# Altium integrated library Atmel AT40K.IntLib: 139 symbols (part 8 of 12)
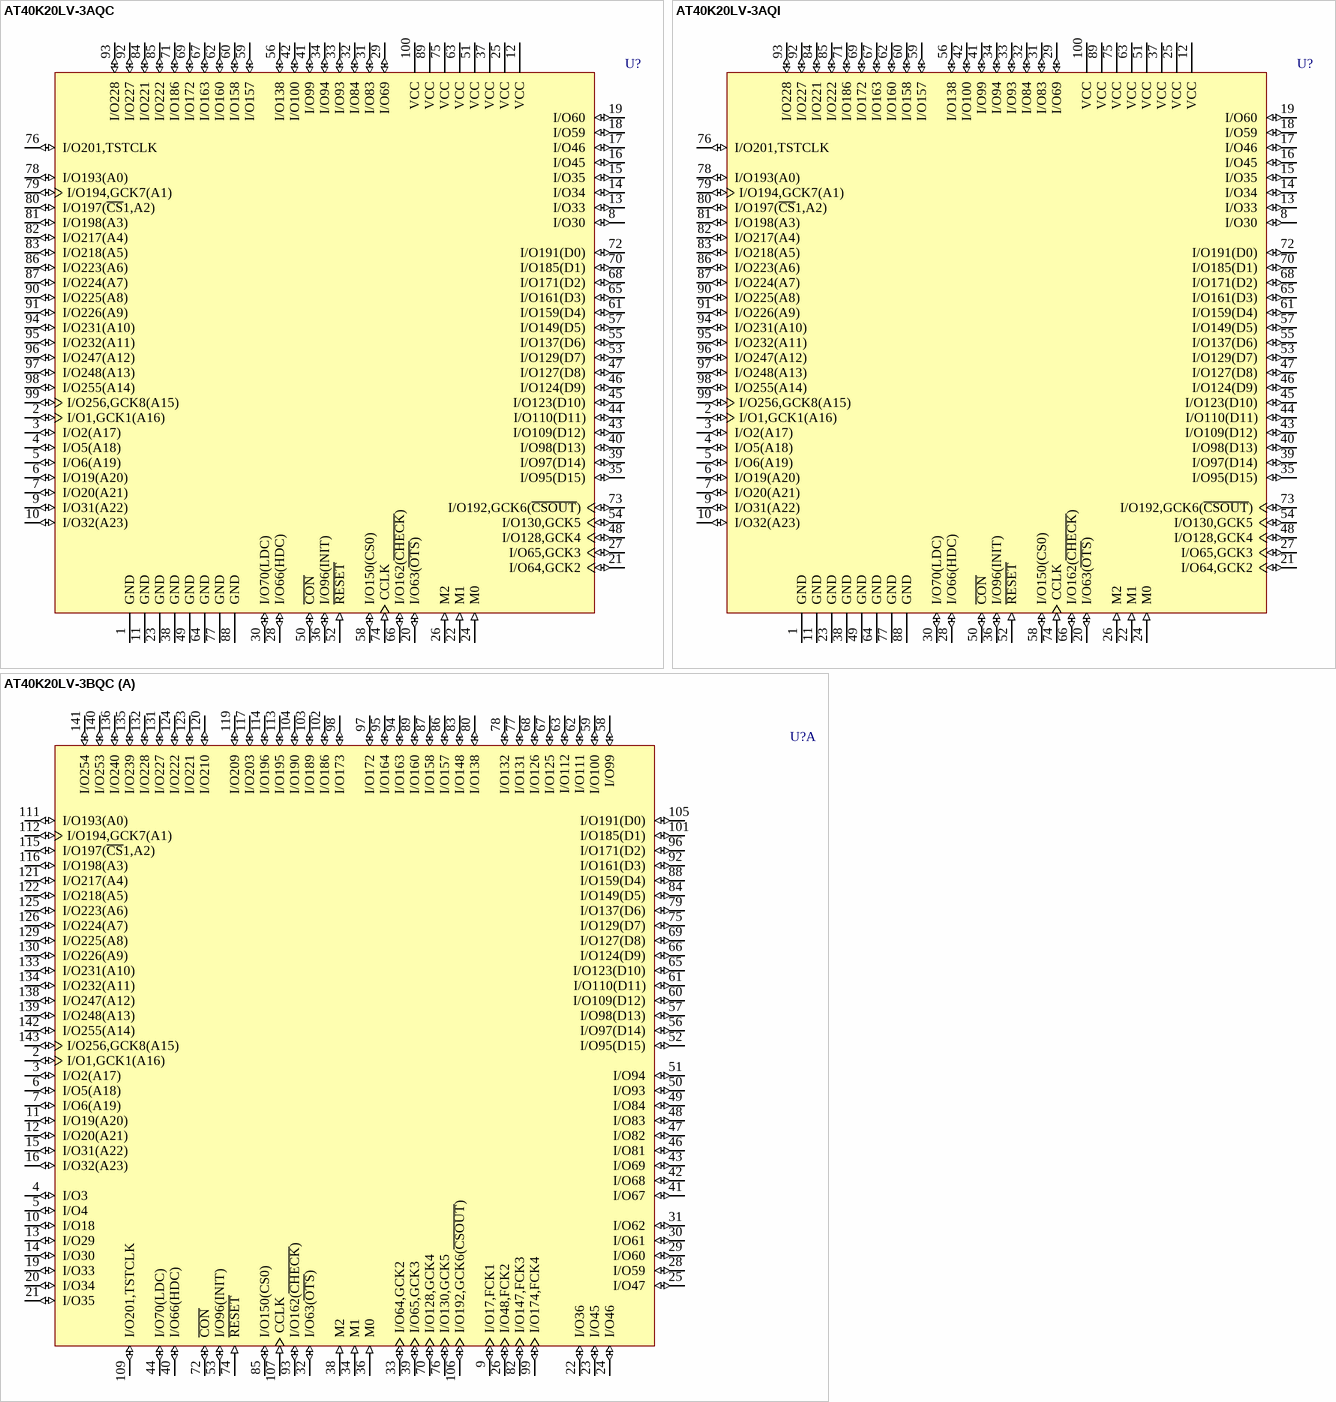
[diagram p114: symbols AT40K20LV-3AQC to AT40K20LV-3BQC]

## AT40K20LV-3AQI
designator U?
AT40K20LV 3.3V FPGA, 78 User I/Os, 100-Lead TQFP, Speed Grade 3, Industrial Grade; Published: 17-Dec-2003; LatestRevisionDate: 13-Apr-2006; LatestRevisionNote: IPC-7351 Footprint Added.; DatasheetVersion: Rev. 0896C-04/02; PackageVersion: rev.A, Nov-2001; PackageReference: 100T1; Publisher: Altium Limited; PackageDescription: 100-Pin Thin Quad Flat Pack 0.5 mm Pitch; Code_JEDEC: MS-026-AED; ComponentLink1Description: Manufacturer Link; ComponentLink1URL: http://www.atmel.com/products/FPGA/; ComponentLink2Description: Datasheet; ComponentLink2URL: http://www.atmel.com/dyn/resources/prod_documents/DOC0896.PDF
footprint 100T1_N (Thin QFP, 100-Leads, Body 14x14mm, Pitch 0.5mm, IPC Medium Density)
footprint 100T1_L (Thin QFP, 100-Leads, Body 14x14mm, Pitch 0.5mm, IPC High Density)
footprint 100T1_M (Thin QFP, 100-Leads, Body 14x14mm, Pitch 0.5mm, IPC Low Density)
3D model AT40K20LV-100T1 (100-Pin Thin Quad Flat Pack 0.5 mm Pitch)
pins: 1 GND (power), 2 I/O1,GCK1(A16) (io), 3 I/O2(A17) (io), 4 I/O5(A18) (io), 5 I/O6(A19) (io), 6 I/O19(A20) (io), 7 I/O20(A21) (io), 8 I/O30 (io), 9 I/O31(A22) (io), 10 I/O32(A23) (io), 11 GND (power), 12 VCC (power), 13 I/O33 (io), 14 I/O34 (io), 15 I/O35 (io), 16 I/O45 (io), 17 I/O46 (io), 18 I/O59 (io), 19 I/O60 (io), 20 I/O63(~{OTS}) (io), 21 I/O64,GCK2 (io), 22 M1 (in), 23 GND (power), 24 M0 (in), 25 VCC (power), 26 M2 (in), 27 I/O65,GCK3 (io), 28 I/O66(HDC) (io), 29 I/O69 (io), 30 I/O70(LDC) (io), 31 I/O83 (io), 32 I/O84 (io), 33 I/O93 (io), 34 I/O94 (io), 35 I/O95(D15) (io), 36 I/O96(INIT) (io), 37 VCC (power), 38 GND (power), 39 I/O97(D14) (io), 40 I/O98(D13) (io), 41 I/O99 (io), 42 I/O100 (io), 43 I/O109(D12) (io), 44 I/O110(D11) (io), 45 I/O123(D10) (io), 46 I/O124(D9) (io), 47 I/O127(D8) (io), 48 I/O128,GCK4 (io), 49 GND (power), 50 ~{CON} (io), 51 VCC (power), 52 ~{RESET} (in), 53 I/O129(D7) (io), 54 I/O130,GCK5 (io), 55 I/O137(D6) (io), 56 I/O138 (io), 57 I/O149(D5) (io), 58 I/O150(CS0) (io), 59 I/O157 (io), 60 I/O158 (io), 61 I/O159(D4) (io), 62 I/O160 (io), 63 VCC (power), 64 GND (power), 65 I/O161(D3) (io), 66 I/O162(~{CHECK}) (io), 67 I/O163 (io), 68 I/O171(D2) (io), 69 I/O172 (io), 70 I/O185(D1) (io), 71 I/O186 (io), 72 I/O191(D0) (io), 73 I/O192,GCK6(~{CSOUT}) (io), 74 CCLK (in), 75 VCC (power), 76 I/O201,TSTCLK (io), 77 GND (power), 78 I/O193(A0) (io), 79 I/O194,GCK7(A1) (io), 80 I/O197(~{CS}1,A2) (io), 81 I/O198(A3) (io), 82 I/O217(A4) (io), 83 I/O218(A5) (io), 84 I/O221 (io), 85 I/O222 (io), 86 I/O223(A6) (io), 87 I/O224(A7) (io), 88 GND (power), 89 VCC (power), 90 I/O225(A8) (io), 91 I/O226(A9) (io), 92 I/O227 (io), 93 I/O228 (io), 94 I/O231(A10) (io), 95 I/O232(A11) (io), 96 I/O247(A12) (io), 97 I/O248(A13) (io), 98 I/O255(A14) (io), 99 I/O256,GCK8(A15) (io), 100 VCC (power)

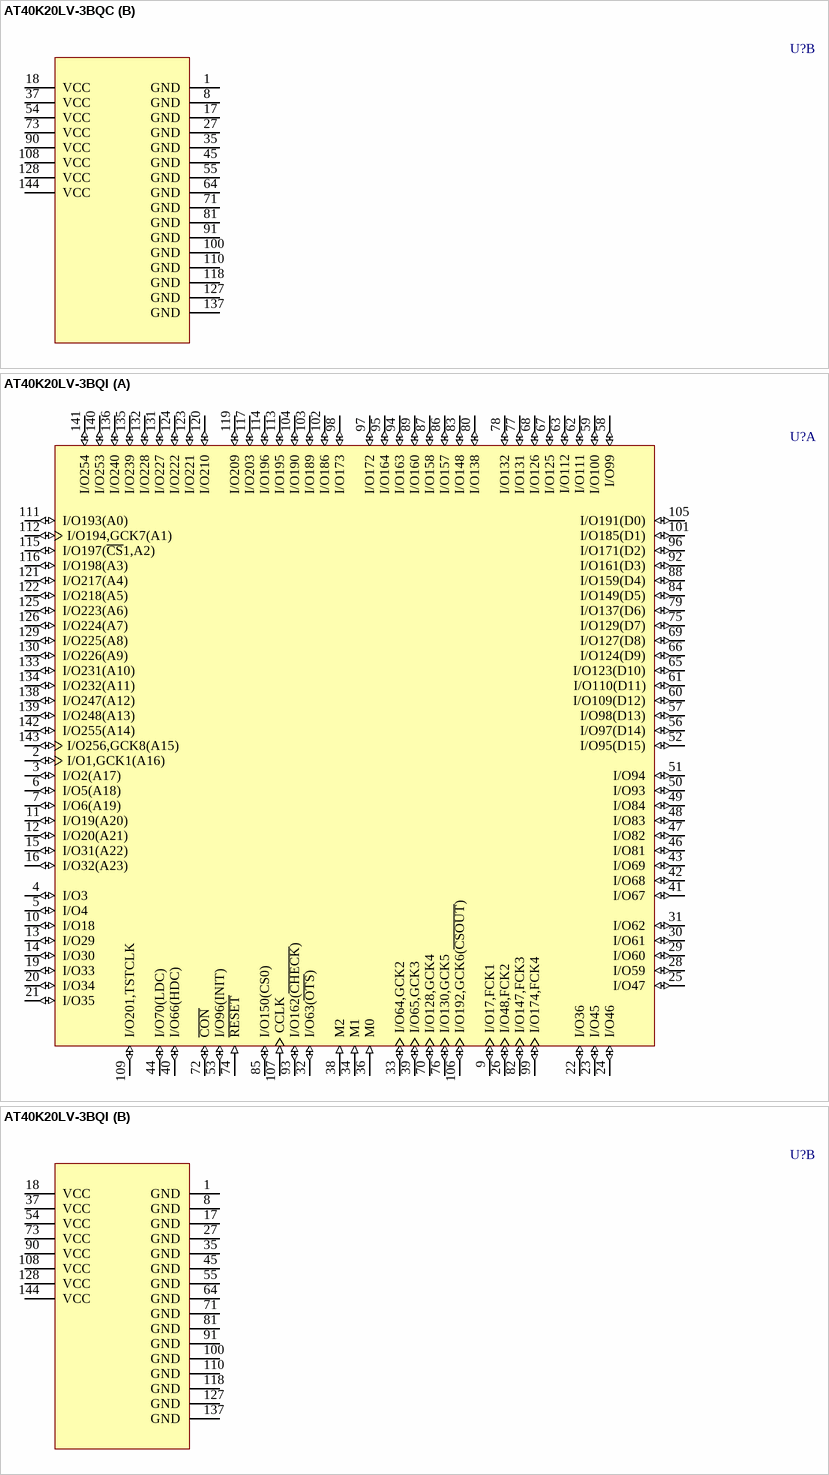
[diagram p60: symbols AT40K20LV-3BQC to AT40K20LV-3BQI]

## AT40K20LV-3BQC
designator U?
AT40K20LV 3.3V FPGA, 114 User I/Os, 144-Lead LQFP, Speed Grade 3, Commercial Grade; Published: 17-Dec-2003; LatestRevisionDate: 13-Apr-2006; LatestRevisionNote: IPC-7351 Footprint Added.; DatasheetVersion: Rev. 0896C-04/02; PackageVersion: rev.A, Nov-2001; PackageReference: 144L1; Publisher: Altium Limited; PackageDescription: 144-Pin Thin Quad Flat Pack 0.5 mm Pitch; Code_JEDEC: MS-026-BFB; ComponentLink1Description: Manufacturer Link; ComponentLink1URL: http://www.atmel.com/products/FPGA/; ComponentLink2Description: Datasheet; ComponentLink2URL: http://www.atmel.com/dyn/resources/prod_documents/DOC0896.PDF
footprint 144L1_N (Thin QFP, 144-Leads, Body 20x20mm, Pitch 0.5mm, IPC Medium Density)
footprint 144L1_L (Thin QFP, 144-Leads, Body 20x20mm, Pitch 0.5mm, IPC High Density)
footprint 144L1_M (Thin QFP, 144-Leads, Body 20x20mm, Pitch 0.5mm, IPC Low Density)
3D model AT40K20LV-144L1 (144-Pin Thin Quad Flat Pack 0.5 mm Pitch)
part A pins: 2 I/O1,GCK1(A16) (io), 3 I/O2(A17) (io), 4 I/O3 (io), 5 I/O4 (io), 6 I/O5(A18) (io), 7 I/O6(A19) (io), 9 I/O17,FCK1 (io), 10 I/O18 (io), 11 I/O19(A20) (io), 12 I/O20(A21) (io), 13 I/O29 (io), 14 I/O30 (io), 15 I/O31(A22) (io), 16 I/O32(A23) (io), 19 I/O33 (io), 20 I/O34 (io), 21 I/O35 (io), 22 I/O36 (io), 23 I/O45 (io), 24 I/O46 (io), 25 I/O47 (io), 26 I/O48,FCK2 (io), 28 I/O59 (io), 29 I/O60 (io), 30 I/O61 (io), 31 I/O62 (io), 32 I/O63(~{OTS}) (io), 33 I/O64,GCK2 (io), 34 M1 (in), 36 M0 (in), 38 M2 (in), 39 I/O65,GCK3 (io), 40 I/O66(HDC) (io), 41 I/O67 (io), 42 I/O68 (io), 43 I/O69 (io), 44 I/O70(LDC) (io), 46 I/O81 (io), 47 I/O82 (io), 48 I/O83 (io), 49 I/O84 (io), 50 I/O93 (io), 51 I/O94 (io), 52 I/O95(D15) (io), 53 I/O96(INIT) (io), 56 I/O97(D14) (io), 57 I/O98(D13) (io), 58 I/O99 (io), 59 I/O100 (io), 60 I/O109(D12) (io), 61 I/O110(D11) (io), 62 I/O111 (io), 63 I/O112 (io), 65 I/O123(D10) (io), 66 I/O124(D9) (io), 67 I/O125 (io), 68 I/O126 (io), 69 I/O127(D8) (io), 70 I/O128,GCK4 (io), 72 ~{CON} (io), 74 ~{RESET} (in), 75 I/O129(D7) (io), 76 I/O130,GCK5 (io), 77 I/O131 (io), 78 I/O132 (io), 79 I/O137(D6) (io), 80 I/O138 (io), 82 I/O147,FCK3 (io), 83 I/O148 (io), 84 I/O149(D5) (io), 85 I/O150(CS0) (io), 86 I/O157 (io), 87 I/O158 (io), 88 I/O159(D4) (io), 89 I/O160 (io), 92 I/O161(D3) (io), 93 I/O162(~{CHECK}) (io), 94 I/O163 (io), 95 I/O164 (io), 96 I/O171(D2) (io), 97 I/O172 (io), 98 I/O173 (io), 99 I/O174,FCK4 (io), 101 I/O185(D1) (io), 102 I/O186 (io), 103 I/O189 (io), 104 I/O190 (io), 105 I/O191(D0) (io), 106 I/O192,GCK6(~{CSOUT}) (io), 107 CCLK (in), 109 I/O201,TSTCLK (io), 111 I/O193(A0) (io), 112 I/O194,GCK7(A1) (io), 113 I/O195 (io), 114 I/O196 (io), 115 I/O197(~{CS}1,A2) (io), 116 I/O198(A3) (io), 117 I/O203 (io), 119 I/O209 (io), 120 I/O210 (io), 121 I/O217(A4) (io), 122 I/O218(A5) (io), 123 I/O221 (io), 124 I/O222 (io), 125 I/O223(A6) (io), 126 I/O224(A7) (io), 129 I/O225(A8) (io), 130 I/O226(A9) (io), 131 I/O227 (io), 132 I/O228 (io), 133 I/O231(A10) (io), 134 I/O232(A11) (io), 135 I/O239 (io), 136 I/O240 (io), 138 I/O247(A12) (io), 139 I/O248(A13) (io), 140 I/O253 (io), 141 I/O254 (io), 142 I/O255(A14) (io), 143 I/O256,GCK8(A15) (io)
part B pins: 1 GND (power), 8 GND (power), 17 GND (power), 18 VCC (power), 27 GND (power), 35 GND (power), 37 VCC (power), 45 GND (power), 54 VCC (power), 55 GND (power), 64 GND (power), 71 GND (power), 73 VCC (power), 81 GND (power), 90 VCC (power), 91 GND (power), 100 GND (power), 108 VCC (power), 110 GND (power), 118 GND (power), 127 GND (power), 128 VCC (power), 137 GND (power), 144 VCC (power)

## AT40K20LV-3BQI
designator U?
AT40K20LV 3.3V FPGA, 114 User I/Os, 144-Lead LQFP, Speed Grade 3, Industrial Grade; Published: 17-Dec-2003; LatestRevisionDate: 13-Apr-2006; LatestRevisionNote: IPC-7351 Footprint Added.; DatasheetVersion: Rev. 0896C-04/02; PackageVersion: rev.A, Nov-2001; PackageReference: 144L1; Publisher: Altium Limited; PackageDescription: 144-Pin Thin Quad Flat Pack 0.5 mm Pitch; Code_JEDEC: MS-026-BFB; ComponentLink1Description: Manufacturer Link; ComponentLink1URL: http://www.atmel.com/products/FPGA/; ComponentLink2Description: Datasheet; ComponentLink2URL: http://www.atmel.com/dyn/resources/prod_documents/DOC0896.PDF
footprint 144L1_N (Thin QFP, 144-Leads, Body 20x20mm, Pitch 0.5mm, IPC Medium Density)
footprint 144L1_L (Thin QFP, 144-Leads, Body 20x20mm, Pitch 0.5mm, IPC High Density)
footprint 144L1_M (Thin QFP, 144-Leads, Body 20x20mm, Pitch 0.5mm, IPC Low Density)
3D model AT40K20LV-144L1 (144-Pin Thin Quad Flat Pack 0.5 mm Pitch)
part A pins: 2 I/O1,GCK1(A16) (io), 3 I/O2(A17) (io), 4 I/O3 (io), 5 I/O4 (io), 6 I/O5(A18) (io), 7 I/O6(A19) (io), 9 I/O17,FCK1 (io), 10 I/O18 (io), 11 I/O19(A20) (io), 12 I/O20(A21) (io), 13 I/O29 (io), 14 I/O30 (io), 15 I/O31(A22) (io), 16 I/O32(A23) (io), 19 I/O33 (io), 20 I/O34 (io), 21 I/O35 (io), 22 I/O36 (io), 23 I/O45 (io), 24 I/O46 (io), 25 I/O47 (io), 26 I/O48,FCK2 (io), 28 I/O59 (io), 29 I/O60 (io), 30 I/O61 (io), 31 I/O62 (io), 32 I/O63(~{OTS}) (io), 33 I/O64,GCK2 (io), 34 M1 (in), 36 M0 (in), 38 M2 (in), 39 I/O65,GCK3 (io), 40 I/O66(HDC) (io), 41 I/O67 (io), 42 I/O68 (io), 43 I/O69 (io), 44 I/O70(LDC) (io), 46 I/O81 (io), 47 I/O82 (io), 48 I/O83 (io), 49 I/O84 (io), 50 I/O93 (io), 51 I/O94 (io), 52 I/O95(D15) (io), 53 I/O96(INIT) (io), 56 I/O97(D14) (io), 57 I/O98(D13) (io), 58 I/O99 (io), 59 I/O100 (io), 60 I/O109(D12) (io), 61 I/O110(D11) (io), 62 I/O111 (io), 63 I/O112 (io), 65 I/O123(D10) (io), 66 I/O124(D9) (io), 67 I/O125 (io), 68 I/O126 (io), 69 I/O127(D8) (io), 70 I/O128,GCK4 (io), 72 ~{CON} (io), 74 ~{RESET} (in), 75 I/O129(D7) (io), 76 I/O130,GCK5 (io), 77 I/O131 (io), 78 I/O132 (io), 79 I/O137(D6) (io), 80 I/O138 (io), 82 I/O147,FCK3 (io), 83 I/O148 (io), 84 I/O149(D5) (io), 85 I/O150(CS0) (io), 86 I/O157 (io), 87 I/O158 (io), 88 I/O159(D4) (io), 89 I/O160 (io), 92 I/O161(D3) (io), 93 I/O162(~{CHECK}) (io), 94 I/O163 (io), 95 I/O164 (io), 96 I/O171(D2) (io), 97 I/O172 (io), 98 I/O173 (io), 99 I/O174,FCK4 (io), 101 I/O185(D1) (io), 102 I/O186 (io), 103 I/O189 (io), 104 I/O190 (io), 105 I/O191(D0) (io), 106 I/O192,GCK6(~{CSOUT}) (io), 107 CCLK (in), 109 I/O201,TSTCLK (io), 111 I/O193(A0) (io), 112 I/O194,GCK7(A1) (io), 113 I/O195 (io), 114 I/O196 (io), 115 I/O197(~{CS}1,A2) (io), 116 I/O198(A3) (io), 117 I/O203 (io), 119 I/O209 (io), 120 I/O210 (io), 121 I/O217(A4) (io), 122 I/O218(A5) (io), 123 I/O221 (io), 124 I/O222 (io), 125 I/O223(A6) (io), 126 I/O224(A7) (io), 129 I/O225(A8) (io), 130 I/O226(A9) (io), 131 I/O227 (io), 132 I/O228 (io), 133 I/O231(A10) (io), 134 I/O232(A11) (io), 135 I/O239 (io), 136 I/O240 (io), 138 I/O247(A12) (io), 139 I/O248(A13) (io), 140 I/O253 (io), 141 I/O254 (io), 142 I/O255(A14) (io), 143 I/O256,GCK8(A15) (io)
part B pins: 1 GND (power), 8 GND (power), 17 GND (power), 18 VCC (power), 27 GND (power), 35 GND (power), 37 VCC (power), 45 GND (power), 54 VCC (power), 55 GND (power), 64 GND (power), 71 GND (power), 73 VCC (power), 81 GND (power), 90 VCC (power), 91 GND (power), 100 GND (power), 108 VCC (power), 110 GND (power), 118 GND (power), 127 GND (power), 128 VCC (power), 137 GND (power), 144 VCC (power)

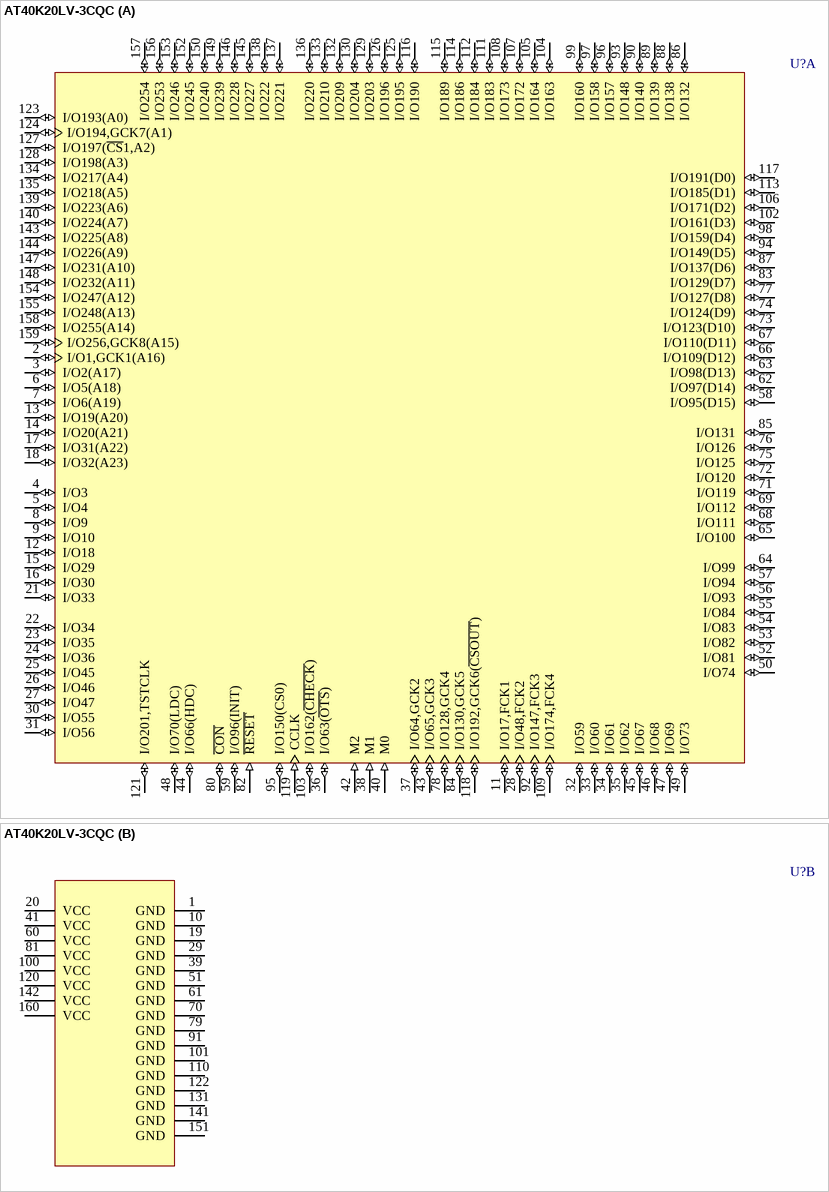
[diagram p61: symbol AT40K20LV-3CQC]

## AT40K20LV-3CQC
designator U?
AT40K20LV 3.3V FPGA, 130 User I/Os, 160-Lead PQFP, Speed Grade 3, Commercial Grade; Published: 17-Dec-2003; LatestRevisionDate: 13-Apr-2006; LatestRevisionNote: IPC-7351 Footprint Added.; DatasheetVersion: Rev. 0896C-04/02; PackageVersion: rev.A, Mar-2002; PackageReference: 160Q1; Publisher: Altium Limited; PackageDescription: 160-Pin Quad Flat Pack 0.65 mm Pitch; Code_JEDEC: MS-022-DD-1; Code_IPC: QFP65P3120X3120-160; ComponentLink1Description: Manufacturer Link; ComponentLink1URL: http://www.atmel.com/products/FPGA/; ComponentLink2Description: Datasheet; ComponentLink2URL: http://www.atmel.com/dyn/resources/prod_documents/DOC0896.PDF
footprint 160Q1_N (QFP, 160-Leads, Body 28 x 28mm, Pitch 0.65mm, IPC Medium Density)
footprint 160Q1_L (QFP, 160-Leads, Body 28 x 28mm, Pitch 0.65mm, IPC High Density)
footprint 160Q1_M (QFP, 160-Leads, Body 28 x 28mm, Pitch 0.65mm, IPC Low Density)
3D model AT40K20LV-160Q1 (160-Pin Quad Flat Pack 0.65 mm Pitch)
part A pins: 2 I/O1,GCK1(A16) (io), 3 I/O2(A17) (io), 4 I/O3 (io), 5 I/O4 (io), 6 I/O5(A18) (io), 7 I/O6(A19) (io), 8 I/O9 (io), 9 I/O10 (io), 11 I/O17,FCK1 (io), 12 I/O18 (io), 13 I/O19(A20) (io), 14 I/O20(A21) (io), 15 I/O29 (io), 16 I/O30 (io), 17 I/O31(A22) (io), 18 I/O32(A23) (io), 21 I/O33 (io), 22 I/O34 (io), 23 I/O35 (io), 24 I/O36 (io), 25 I/O45 (io), 26 I/O46 (io), 27 I/O47 (io), 28 I/O48,FCK2 (io), 30 I/O55 (io), 31 I/O56 (io), 32 I/O59 (io), 33 I/O60 (io), 34 I/O61 (io), 35 I/O62 (io), 36 I/O63(~{OTS}) (io), 37 I/O64,GCK2 (io), 38 M1 (in), 40 M0 (in), 42 M2 (in), 43 I/O65,GCK3 (io), 44 I/O66(HDC) (io), 45 I/O67 (io), 46 I/O68 (io), 47 I/O69 (io), 48 I/O70(LDC) (io), 49 I/O73 (io), 50 I/O74 (io), 52 I/O81 (io), 53 I/O82 (io), 54 I/O83 (io), 55 I/O84 (io), 56 I/O93 (io), 57 I/O94 (io), 58 I/O95(D15) (io), 59 I/O96(INIT) (io), 62 I/O97(D14) (io), 63 I/O98(D13) (io), 64 I/O99 (io), 65 I/O100 (io), 66 I/O109(D12) (io), 67 I/O110(D11) (io), 68 I/O111 (io), 69 I/O112 (io), 71 I/O119 (io), 72 I/O120 (io), 73 I/O123(D10) (io), 74 I/O124(D9) (io), 75 I/O125 (io), 76 I/O126 (io), 77 I/O127(D8) (io), 78 I/O128,GCK4 (io), 80 ~{CON} (io), 82 ~{RESET} (in), 83 I/O129(D7) (io), 84 I/O130,GCK5 (io), 85 I/O131 (io), 86 I/O132 (io), 87 I/O137(D6) (io), 88 I/O138 (io), 89 I/O139 (io), 90 I/O140 (io), 92 I/O147,FCK3 (io), 93 I/O148 (io), 94 I/O149(D5) (io), 95 I/O150(CS0) (io), 96 I/O157 (io), 97 I/O158 (io), 98 I/O159(D4) (io), 99 I/O160 (io), 102 I/O161(D3) (io), 103 I/O162(~{CHECK}) (io), 104 I/O163 (io), 105 I/O164 (io), 106 I/O171(D2) (io), 107 I/O172 (io), 108 I/O173 (io), 109 I/O174,FCK4 (io), 111 I/O183 (io), 112 I/O184 (io), 113 I/O185(D1) (io), 114 I/O186 (io), 115 I/O189 (io), 116 I/O190 (io), 117 I/O191(D0) (io), 118 I/O192,GCK6(~{CSOUT}) (io), 119 CCLK (in), 121 I/O201,TSTCLK (io), 123 I/O193(A0) (io), 124 I/O194,GCK7(A1) (io), 125 I/O195 (io), 126 I/O196 (io), 127 I/O197(~{CS}1,A2) (io), 128 I/O198(A3) (io), 129 I/O203 (io), 130 I/O204 (io), 132 I/O209 (io), 133 I/O210 (io), 134 I/O217(A4) (io), 135 I/O218(A5) (io), 136 I/O220 (io), 137 I/O221 (io), 138 I/O222 (io), 139 I/O223(A6) (io), 140 I/O224(A7) (io), 143 I/O225(A8) (io), 144 I/O226(A9) (io), 145 I/O227 (io), 146 I/O228 (io), 147 I/O231(A10) (io), 148 I/O232(A11) (io), 149 I/O239 (io), 150 I/O240 (io), 152 I/O245 (io), 153 I/O246 (io), 154 I/O247(A12) (io), 155 I/O248(A13) (io), 156 I/O253 (io), 157 I/O254 (io), 158 I/O255(A14) (io), 159 I/O256,GCK8(A15) (io)
part B pins: 1 GND (power), 10 GND (power), 19 GND (power), 20 VCC (power), 29 GND (power), 39 GND (power), 41 VCC (power), 51 GND (power), 60 VCC (power), 61 GND (power), 70 GND (power), 79 GND (power), 81 VCC (power), 91 GND (power), 100 VCC (power), 101 GND (power), 110 GND (power), 120 VCC (power), 122 GND (power), 131 GND (power), 141 GND (power), 142 VCC (power), 151 GND (power), 160 VCC (power)

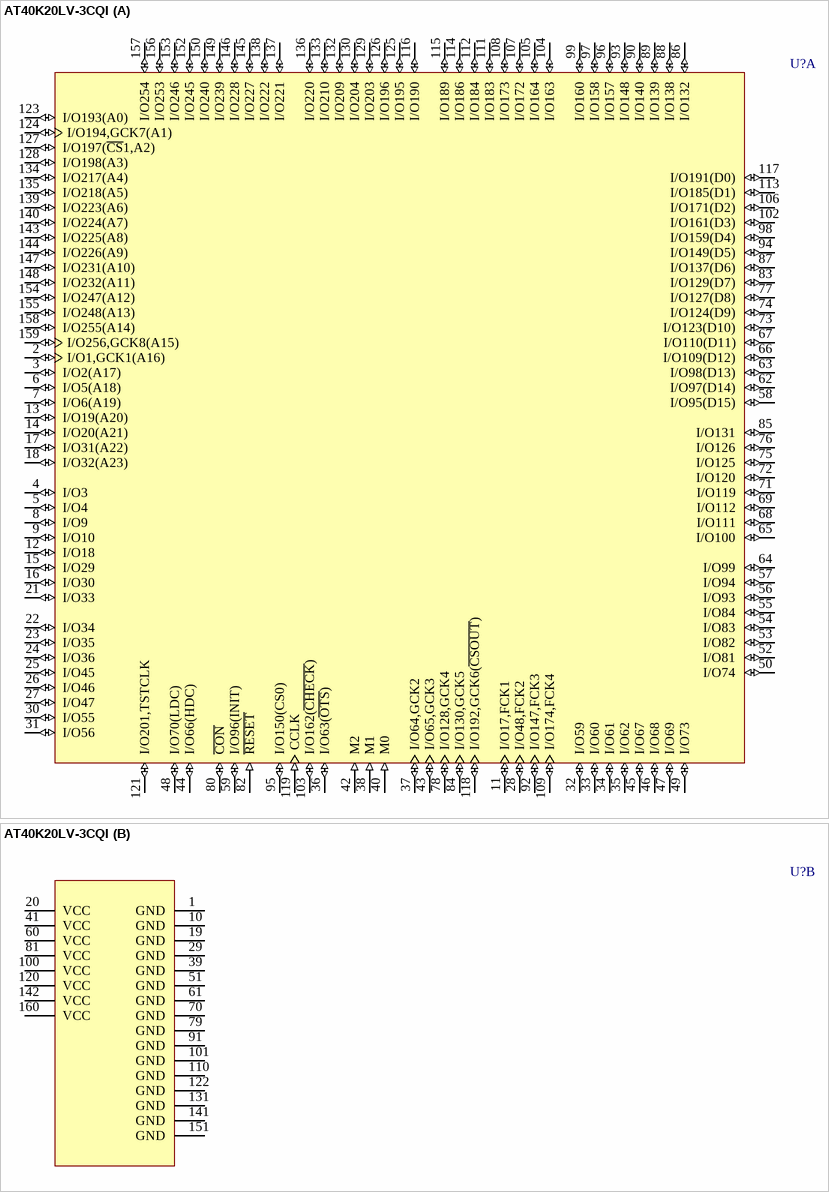
[diagram p62: symbol AT40K20LV-3CQI]

## AT40K20LV-3CQI
designator U?
AT40K20LV 3.3V FPGA, 130 User I/Os, 160-Lead PQFP, Speed Grade 3, Industrial Grade; Published: 17-Dec-2003; LatestRevisionDate: 13-Apr-2006; LatestRevisionNote: IPC-7351 Footprint Added.; DatasheetVersion: Rev. 0896C-04/02; PackageVersion: rev.A, Mar-2002; PackageReference: 160Q1; Publisher: Altium Limited; PackageDescription: 160-Pin Quad Flat Pack 0.65 mm Pitch; Code_JEDEC: MS-022-DD-1; Code_IPC: QFP65P3120X3120-160; ComponentLink1Description: Manufacturer Link; ComponentLink1URL: http://www.atmel.com/products/FPGA/; ComponentLink2Description: Datasheet; ComponentLink2URL: http://www.atmel.com/dyn/resources/prod_documents/DOC0896.PDF
footprint 160Q1_N (QFP, 160-Leads, Body 28 x 28mm, Pitch 0.65mm, IPC Medium Density)
footprint 160Q1_L (QFP, 160-Leads, Body 28 x 28mm, Pitch 0.65mm, IPC High Density)
footprint 160Q1_M (QFP, 160-Leads, Body 28 x 28mm, Pitch 0.65mm, IPC Low Density)
3D model AT40K20LV-160Q1 (160-Pin Quad Flat Pack 0.65 mm Pitch)
part A pins: 2 I/O1,GCK1(A16) (io), 3 I/O2(A17) (io), 4 I/O3 (io), 5 I/O4 (io), 6 I/O5(A18) (io), 7 I/O6(A19) (io), 8 I/O9 (io), 9 I/O10 (io), 11 I/O17,FCK1 (io), 12 I/O18 (io), 13 I/O19(A20) (io), 14 I/O20(A21) (io), 15 I/O29 (io), 16 I/O30 (io), 17 I/O31(A22) (io), 18 I/O32(A23) (io), 21 I/O33 (io), 22 I/O34 (io), 23 I/O35 (io), 24 I/O36 (io), 25 I/O45 (io), 26 I/O46 (io), 27 I/O47 (io), 28 I/O48,FCK2 (io), 30 I/O55 (io), 31 I/O56 (io), 32 I/O59 (io), 33 I/O60 (io), 34 I/O61 (io), 35 I/O62 (io), 36 I/O63(~{OTS}) (io), 37 I/O64,GCK2 (io), 38 M1 (in), 40 M0 (in), 42 M2 (in), 43 I/O65,GCK3 (io), 44 I/O66(HDC) (io), 45 I/O67 (io), 46 I/O68 (io), 47 I/O69 (io), 48 I/O70(LDC) (io), 49 I/O73 (io), 50 I/O74 (io), 52 I/O81 (io), 53 I/O82 (io), 54 I/O83 (io), 55 I/O84 (io), 56 I/O93 (io), 57 I/O94 (io), 58 I/O95(D15) (io), 59 I/O96(INIT) (io), 62 I/O97(D14) (io), 63 I/O98(D13) (io), 64 I/O99 (io), 65 I/O100 (io), 66 I/O109(D12) (io), 67 I/O110(D11) (io), 68 I/O111 (io), 69 I/O112 (io), 71 I/O119 (io), 72 I/O120 (io), 73 I/O123(D10) (io), 74 I/O124(D9) (io), 75 I/O125 (io), 76 I/O126 (io), 77 I/O127(D8) (io), 78 I/O128,GCK4 (io), 80 ~{CON} (io), 82 ~{RESET} (in), 83 I/O129(D7) (io), 84 I/O130,GCK5 (io), 85 I/O131 (io), 86 I/O132 (io), 87 I/O137(D6) (io), 88 I/O138 (io), 89 I/O139 (io), 90 I/O140 (io), 92 I/O147,FCK3 (io), 93 I/O148 (io), 94 I/O149(D5) (io), 95 I/O150(CS0) (io), 96 I/O157 (io), 97 I/O158 (io), 98 I/O159(D4) (io), 99 I/O160 (io), 102 I/O161(D3) (io), 103 I/O162(~{CHECK}) (io), 104 I/O163 (io), 105 I/O164 (io), 106 I/O171(D2) (io), 107 I/O172 (io), 108 I/O173 (io), 109 I/O174,FCK4 (io), 111 I/O183 (io), 112 I/O184 (io), 113 I/O185(D1) (io), 114 I/O186 (io), 115 I/O189 (io), 116 I/O190 (io), 117 I/O191(D0) (io), 118 I/O192,GCK6(~{CSOUT}) (io), 119 CCLK (in), 121 I/O201,TSTCLK (io), 123 I/O193(A0) (io), 124 I/O194,GCK7(A1) (io), 125 I/O195 (io), 126 I/O196 (io), 127 I/O197(~{CS}1,A2) (io), 128 I/O198(A3) (io), 129 I/O203 (io), 130 I/O204 (io), 132 I/O209 (io), 133 I/O210 (io), 134 I/O217(A4) (io), 135 I/O218(A5) (io), 136 I/O220 (io), 137 I/O221 (io), 138 I/O222 (io), 139 I/O223(A6) (io), 140 I/O224(A7) (io), 143 I/O225(A8) (io), 144 I/O226(A9) (io), 145 I/O227 (io), 146 I/O228 (io), 147 I/O231(A10) (io), 148 I/O232(A11) (io), 149 I/O239 (io), 150 I/O240 (io), 152 I/O245 (io), 153 I/O246 (io), 154 I/O247(A12) (io), 155 I/O248(A13) (io), 156 I/O253 (io), 157 I/O254 (io), 158 I/O255(A14) (io), 159 I/O256,GCK8(A15) (io)
part B pins: 1 GND (power), 10 GND (power), 19 GND (power), 20 VCC (power), 29 GND (power), 39 GND (power), 41 VCC (power), 51 GND (power), 60 VCC (power), 61 GND (power), 70 GND (power), 79 GND (power), 81 VCC (power), 91 GND (power), 100 VCC (power), 101 GND (power), 110 GND (power), 120 VCC (power), 122 GND (power), 131 GND (power), 141 GND (power), 142 VCC (power), 151 GND (power), 160 VCC (power)

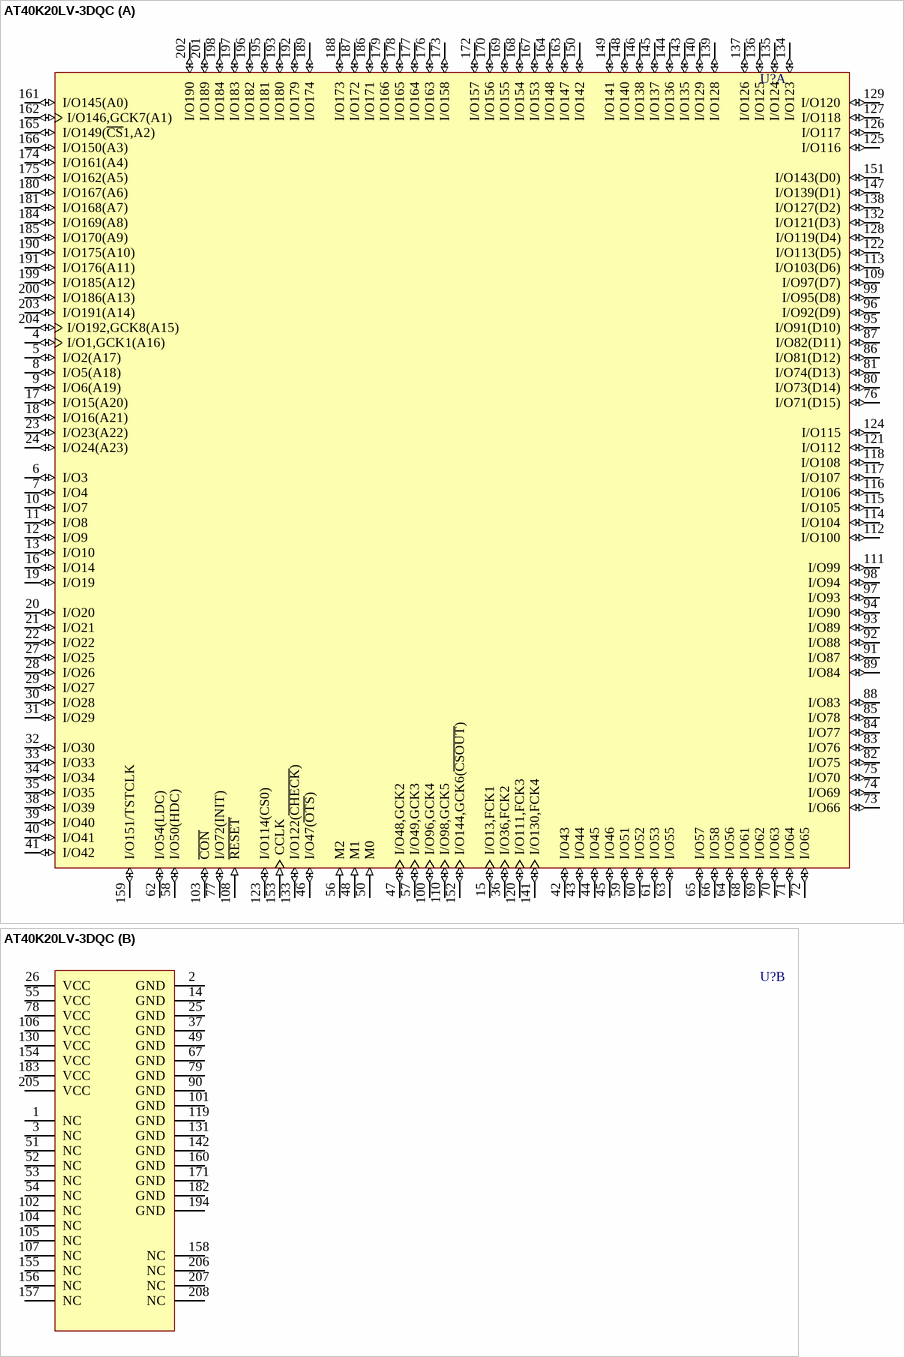
[diagram p63: symbol AT40K20LV-3DQC]

## AT40K20LV-3DQC
designator U?
AT40K20LV 3.3V FPGA, 161 User I/Os, 208-Lead PQFP, Speed Grade 3, Commercial Grade; Published: 17-Dec-2003; LatestRevisionDate: 13-Apr-2006; LatestRevisionNote: IPC-7351 Footprint Added.; DatasheetVersion: Rev. 0896C-04/02; PackageVersion: rev.A, Nov-2001; PackageReference: 208Q1; Publisher: Altium Limited; PackageDescription: 208-Pin Shrink Quad Flat Pack 0.5 mm Pitch; ComponentLink1Description: Manufacturer Link; ComponentLink1URL: http://www.atmel.com/products/FPGA/; ComponentLink2Description: Datasheet; ComponentLink2URL: http://www.atmel.com/dyn/resources/prod_documents/DOC0896.PDF
footprint 208Q1_N (Shrink QFP, 208-Leads, Body 28x28mm, Pitch 0.5mm, IPC Medium Density)
footprint 208Q1_L (Shrink QFP, 208-Leads, Body 28x28mm, Pitch 0.5mm, IPC High Density)
footprint 208Q1_M (Shrink QFP, 208-Leads, Body 28x28mm, Pitch 0.5mm, IPC Low Density)
3D model AT40K20LV-208Q1 (208-Pin Shrink Quad Flat Pack 0.5 mm Pitch)
part A pins: 4 I/O1,GCK1(A16) (io), 5 I/O2(A17) (io), 6 I/O3 (io), 7 I/O4 (io), 8 I/O5(A18) (io), 9 I/O6(A19) (io), 10 I/O7 (io), 11 I/O8 (io), 12 I/O9 (io), 13 I/O10 (io), 15 I/O13,FCK1 (io), 16 I/O14 (io), 17 I/O15(A20) (io), 18 I/O16(A21) (io), 19 I/O19 (io), 20 I/O20 (io), 21 I/O21 (io), 22 I/O22 (io), 23 I/O23(A22) (io), 24 I/O24(A23) (io), 27 I/O25 (io), 28 I/O26 (io), 29 I/O27 (io), 30 I/O28 (io), 31 I/O29 (io), 32 I/O30 (io), 33 I/O33 (io), 34 I/O34 (io), 35 I/O35 (io), 36 I/O36,FCK2 (io), 38 I/O39 (io), 39 I/O40 (io), 40 I/O41 (io), 41 I/O42 (io), 42 I/O43 (io), 43 I/O44 (io), 44 I/O45 (io), 45 I/O46 (io), 46 I/O47(~{OTS}) (io), 47 I/O48,GCK2 (io), 48 M1 (in), 50 M0 (in), 56 M2 (in), 57 I/O49,GCK3 (io), 58 I/O50(HDC) (io), 59 I/O51 (io), 60 I/O52 (io), 61 I/O53 (io), 62 I/O54(LDC) (io), 63 I/O55 (io), 64 I/O56 (io), 65 I/O57 (io), 66 I/O58 (io), 68 I/O61 (io), 69 I/O62 (io), 70 I/O63 (io), 71 I/O64 (io), 72 I/O65 (io), 73 I/O66 (io), 74 I/O69 (io), 75 I/O70 (io), 76 I/O71(D15) (io), 77 I/O72(INIT) (io), 80 I/O73(D14) (io), 81 I/O74(D13) (io), 82 I/O75 (io), 83 I/O76 (io), 84 I/O77 (io), 85 I/O78 (io), 86 I/O81(D12) (io), 87 I/O82(D11) (io), 88 I/O83 (io), 89 I/O84 (io), 91 I/O87 (io), 92 I/O88 (io), 93 I/O89 (io), 94 I/O90 (io), 95 I/O91(D10) (io), 96 I/O92(D9) (io), 97 I/O93 (io), 98 I/O94 (io), 99 I/O95(D8) (io), 100 I/O96,GCK4 (io), 103 ~{CON} (io), 108 ~{RESET} (in), 109 I/O97(D7) (io), 110 I/O98,GCK5 (io), 111 I/O99 (io), 112 I/O100 (io), 113 I/O103(D6) (io), 114 I/O104 (io), 115 I/O105 (io), 116 I/O106 (io), 117 I/O107 (io), 118 I/O108 (io), 120 I/O111,FCK3 (io), 121 I/O112 (io), 122 I/O113(D5) (io), 123 I/O114(CS0) (io), 124 I/O115 (io), 125 I/O116 (io), 126 I/O117 (io), 127 I/O118 (io), 128 I/O119(D4) (io), 129 I/O120 (io), 132 I/O121(D3) (io), 133 I/O122(~{CHECK}) (io), 134 I/O123 (io), 135 I/O124 (io), 136 I/O125 (io), 137 I/O126 (io), 138 I/O127(D2) (io), 139 I/O128 (io), 140 I/O129 (io), 141 I/O130,FCK4 (io), 143 I/O135 (io), 144 I/O136 (io), 145 I/O137 (io), 146 I/O138 (io), 147 I/O139(D1) (io), 148 I/O140 (io), 149 I/O141 (io), 150 I/O142 (io), 151 I/O143(D0) (io), 152 I/O144,GCK6(~{CSOUT}) (io), 153 CCLK (in), 159 I/O151/TSTCLK (io), 161 I/O145(A0) (io), 162 I/O146,GCK7(A1) (io), 163 I/O147 (io), 164 I/O148 (io), 165 I/O149(~{CS}1,A2) (io), 166 I/O150(A3) (io), 167 I/O153 (io), 168 I/O154 (io), 169 I/O155 (io), 170 I/O156 (io), 172 I/O157 (io), 173 I/O158 (io), 174 I/O161(A4) (io), 175 I/O162(A5) (io), 176 I/O163 (io), 177 I/O164 (io), 178 I/O165 (io), 179 I/O166 (io), 180 I/O167(A6) (io), 181 I/O168(A7) (io), 184 I/O169(A8) (io), 185 I/O170(A9) (io), 186 I/O171 (io), 187 I/O172 (io), 188 I/O173 (io), 189 I/O174 (io), 190 I/O175(A10) (io), 191 I/O176(A11) (io), 192 I/O179 (io), 193 I/O180 (io), 195 I/O181 (io), 196 I/O182 (io), 197 I/O183 (io), 198 I/O184 (io), 199 I/O185(A12) (io), 200 I/O186(A13) (io), 201 I/O189 (io), 202 I/O190 (io), 203 I/O191(A14) (io), 204 I/O192,GCK8(A15) (io)
part B pins: 1 NC, 2 GND (power), 3 NC, 14 GND (power), 25 GND (power), 26 VCC (power), 37 GND (power), 49 GND (power), 51 NC, 52 NC, 53 NC, 54 NC, 55 VCC (power), 67 GND (power), 78 VCC (power), 79 GND (power), 90 GND (power), 101 GND (power), 102 NC, 104 NC, 105 NC, 106 VCC (power), 107 NC, 119 GND (power), 130 VCC (power), 131 GND (power), 142 GND (power), 154 VCC (power), 155 NC, 156 NC, 157 NC, 158 NC, 160 GND (power), 171 GND (power), 182 GND (power), 183 VCC (power), 194 GND (power), 205 VCC (power), 206 NC, 207 NC, 208 NC

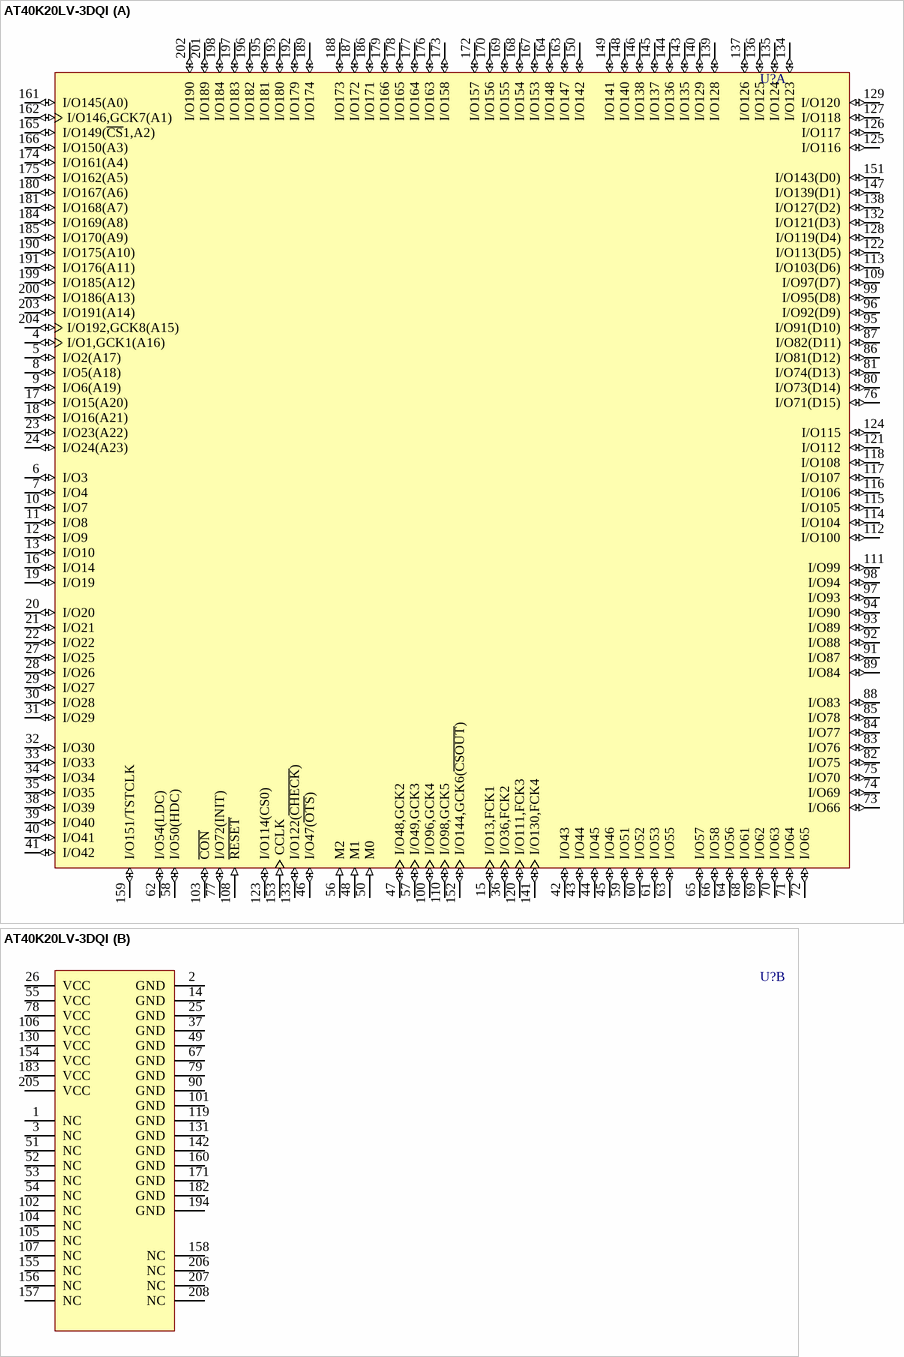
[diagram p64: symbol AT40K20LV-3DQI]

## AT40K20LV-3DQI
designator U?
AT40K20LV 3.3V FPGA, 161 User I/Os, 208-Lead PQFP, Speed Grade 3, Industrial Grade; Published: 17-Dec-2003; LatestRevisionDate: 13-Apr-2006; LatestRevisionNote: IPC-7351 Footprint Added.; DatasheetVersion: Rev. 0896C-04/02; PackageVersion: rev.A, Nov-2001; PackageReference: 208Q1; Publisher: Altium Limited; PackageDescription: 208-Pin Shrink Quad Flat Pack 0.5 mm Pitch; ComponentLink1Description: Manufacturer Link; ComponentLink1URL: http://www.atmel.com/products/FPGA/; ComponentLink2Description: Datasheet; ComponentLink2URL: http://www.atmel.com/dyn/resources/prod_documents/DOC0896.PDF
footprint 208Q1_N (Shrink QFP, 208-Leads, Body 28x28mm, Pitch 0.5mm, IPC Medium Density)
footprint 208Q1_L (Shrink QFP, 208-Leads, Body 28x28mm, Pitch 0.5mm, IPC High Density)
footprint 208Q1_M (Shrink QFP, 208-Leads, Body 28x28mm, Pitch 0.5mm, IPC Low Density)
3D model AT40K20LV-208Q1 (208-Pin Shrink Quad Flat Pack 0.5 mm Pitch)
part A pins: 4 I/O1,GCK1(A16) (io), 5 I/O2(A17) (io), 6 I/O3 (io), 7 I/O4 (io), 8 I/O5(A18) (io), 9 I/O6(A19) (io), 10 I/O7 (io), 11 I/O8 (io), 12 I/O9 (io), 13 I/O10 (io), 15 I/O13,FCK1 (io), 16 I/O14 (io), 17 I/O15(A20) (io), 18 I/O16(A21) (io), 19 I/O19 (io), 20 I/O20 (io), 21 I/O21 (io), 22 I/O22 (io), 23 I/O23(A22) (io), 24 I/O24(A23) (io), 27 I/O25 (io), 28 I/O26 (io), 29 I/O27 (io), 30 I/O28 (io), 31 I/O29 (io), 32 I/O30 (io), 33 I/O33 (io), 34 I/O34 (io), 35 I/O35 (io), 36 I/O36,FCK2 (io), 38 I/O39 (io), 39 I/O40 (io), 40 I/O41 (io), 41 I/O42 (io), 42 I/O43 (io), 43 I/O44 (io), 44 I/O45 (io), 45 I/O46 (io), 46 I/O47(~{OTS}) (io), 47 I/O48,GCK2 (io), 48 M1 (in), 50 M0 (in), 56 M2 (in), 57 I/O49,GCK3 (io), 58 I/O50(HDC) (io), 59 I/O51 (io), 60 I/O52 (io), 61 I/O53 (io), 62 I/O54(LDC) (io), 63 I/O55 (io), 64 I/O56 (io), 65 I/O57 (io), 66 I/O58 (io), 68 I/O61 (io), 69 I/O62 (io), 70 I/O63 (io), 71 I/O64 (io), 72 I/O65 (io), 73 I/O66 (io), 74 I/O69 (io), 75 I/O70 (io), 76 I/O71(D15) (io), 77 I/O72(INIT) (io), 80 I/O73(D14) (io), 81 I/O74(D13) (io), 82 I/O75 (io), 83 I/O76 (io), 84 I/O77 (io), 85 I/O78 (io), 86 I/O81(D12) (io), 87 I/O82(D11) (io), 88 I/O83 (io), 89 I/O84 (io), 91 I/O87 (io), 92 I/O88 (io), 93 I/O89 (io), 94 I/O90 (io), 95 I/O91(D10) (io), 96 I/O92(D9) (io), 97 I/O93 (io), 98 I/O94 (io), 99 I/O95(D8) (io), 100 I/O96,GCK4 (io), 103 ~{CON} (io), 108 ~{RESET} (in), 109 I/O97(D7) (io), 110 I/O98,GCK5 (io), 111 I/O99 (io), 112 I/O100 (io), 113 I/O103(D6) (io), 114 I/O104 (io), 115 I/O105 (io), 116 I/O106 (io), 117 I/O107 (io), 118 I/O108 (io), 120 I/O111,FCK3 (io), 121 I/O112 (io), 122 I/O113(D5) (io), 123 I/O114(CS0) (io), 124 I/O115 (io), 125 I/O116 (io), 126 I/O117 (io), 127 I/O118 (io), 128 I/O119(D4) (io), 129 I/O120 (io), 132 I/O121(D3) (io), 133 I/O122(~{CHECK}) (io), 134 I/O123 (io), 135 I/O124 (io), 136 I/O125 (io), 137 I/O126 (io), 138 I/O127(D2) (io), 139 I/O128 (io), 140 I/O129 (io), 141 I/O130,FCK4 (io), 143 I/O135 (io), 144 I/O136 (io), 145 I/O137 (io), 146 I/O138 (io), 147 I/O139(D1) (io), 148 I/O140 (io), 149 I/O141 (io), 150 I/O142 (io), 151 I/O143(D0) (io), 152 I/O144,GCK6(~{CSOUT}) (io), 153 CCLK (in), 159 I/O151/TSTCLK (io), 161 I/O145(A0) (io), 162 I/O146,GCK7(A1) (io), 163 I/O147 (io), 164 I/O148 (io), 165 I/O149(~{CS}1,A2) (io), 166 I/O150(A3) (io), 167 I/O153 (io), 168 I/O154 (io), 169 I/O155 (io), 170 I/O156 (io), 172 I/O157 (io), 173 I/O158 (io), 174 I/O161(A4) (io), 175 I/O162(A5) (io), 176 I/O163 (io), 177 I/O164 (io), 178 I/O165 (io), 179 I/O166 (io), 180 I/O167(A6) (io), 181 I/O168(A7) (io), 184 I/O169(A8) (io), 185 I/O170(A9) (io), 186 I/O171 (io), 187 I/O172 (io), 188 I/O173 (io), 189 I/O174 (io), 190 I/O175(A10) (io), 191 I/O176(A11) (io), 192 I/O179 (io), 193 I/O180 (io), 195 I/O181 (io), 196 I/O182 (io), 197 I/O183 (io), 198 I/O184 (io), 199 I/O185(A12) (io), 200 I/O186(A13) (io), 201 I/O189 (io), 202 I/O190 (io), 203 I/O191(A14) (io), 204 I/O192,GCK8(A15) (io)
part B pins: 1 NC, 2 GND (power), 3 NC, 14 GND (power), 25 GND (power), 26 VCC (power), 37 GND (power), 49 GND (power), 51 NC, 52 NC, 53 NC, 54 NC, 55 VCC (power), 67 GND (power), 78 VCC (power), 79 GND (power), 90 GND (power), 101 GND (power), 102 NC, 104 NC, 105 NC, 106 VCC (power), 107 NC, 119 GND (power), 130 VCC (power), 131 GND (power), 142 GND (power), 154 VCC (power), 155 NC, 156 NC, 157 NC, 158 NC, 160 GND (power), 171 GND (power), 182 GND (power), 183 VCC (power), 194 GND (power), 205 VCC (power), 206 NC, 207 NC, 208 NC

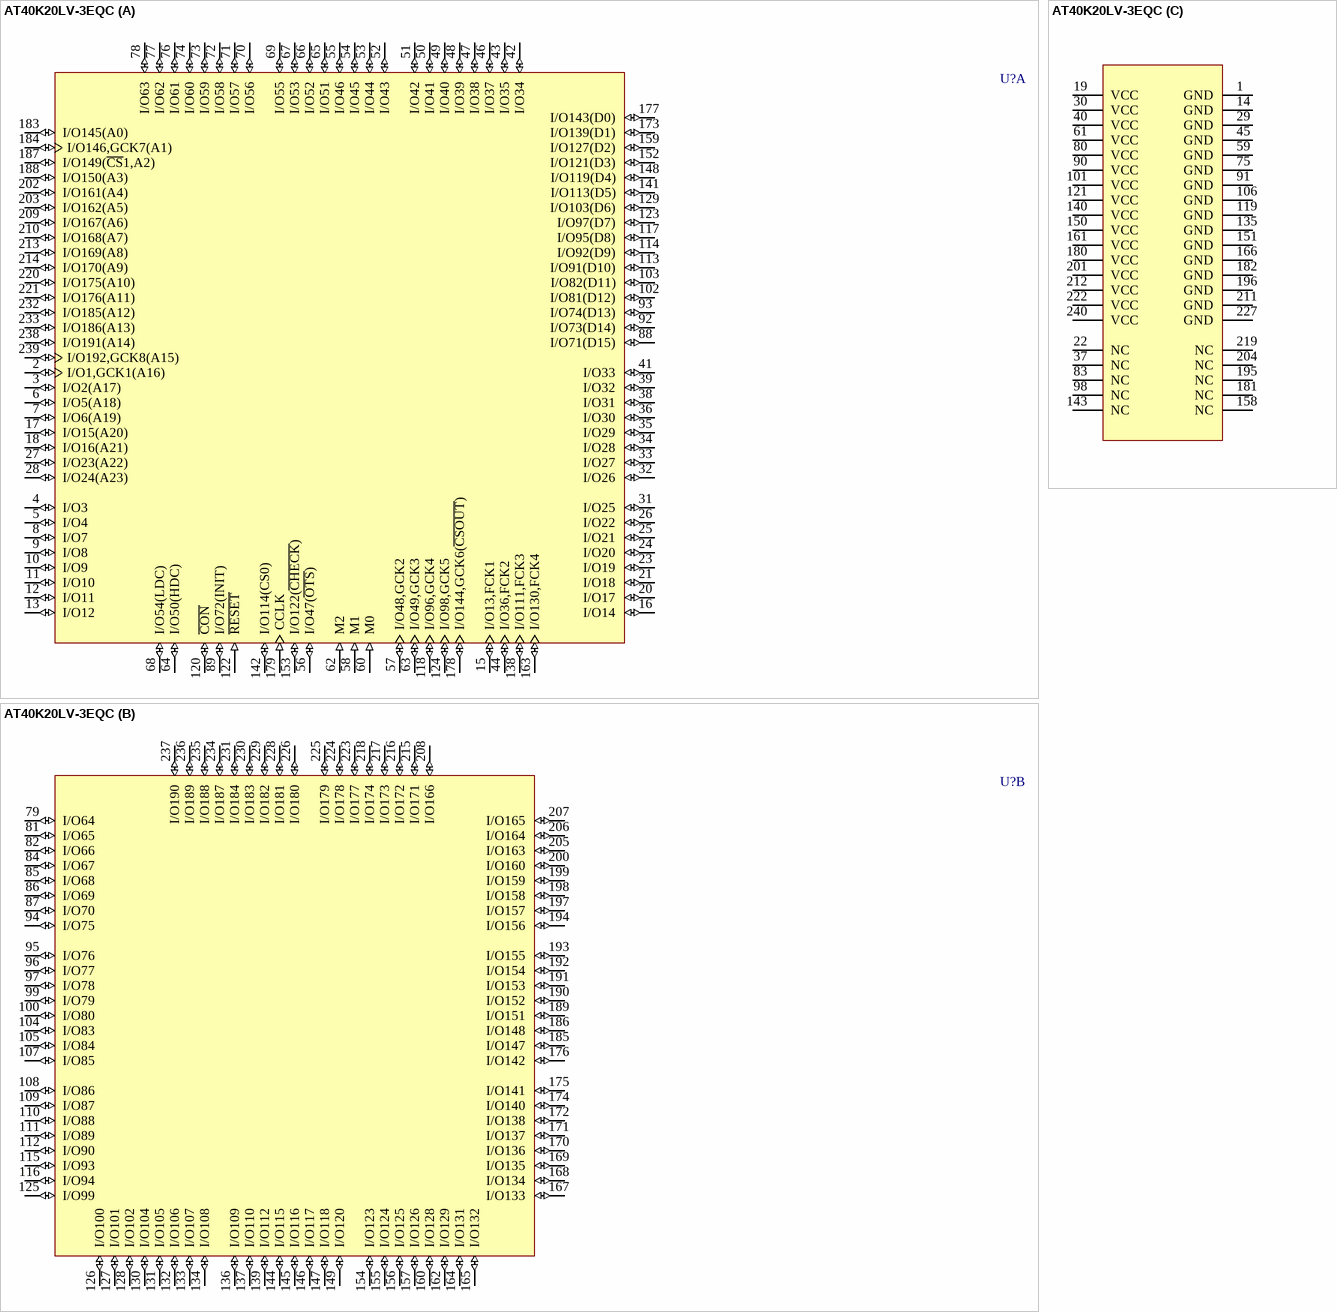
[diagram p65: symbol AT40K20LV-3EQC]

## AT40K20LV-3EQC
designator U?
AT40K20LV 3.3V FPGA, 193 User I/Os, 240-Lead PQFP, Speed Grade 3, Commercial Grade; Published: 15-Apr-2002; LatestRevisionDate: 13-Apr-2006; LatestRevisionNote: IPC-7351 Footprint Added.; DatasheetVersion: Rev. 0896C-04/02; PackageVersion: rev.A, Mar-2002; PackageReference: 240Q1; Publisher: Altium Limited; PackageDescription: 240-Pin Shrink Quad Flat Pack 0.5 mm Pitch; Code_JEDEC: MS-029-GA; ComponentLink1Description: Manufacturer Link; ComponentLink1URL: http://www.atmel.com/products/FPGA/; ComponentLink2Description: Datasheet; ComponentLink2URL: http://www.atmel.com/dyn/resources/prod_documents/DOC0896.PDF
footprint 240Q1_N (Shrink QFP, 240-Leads, Body 32x32mm, Pitch 0.5mm, IPC Medium Density)
footprint 240Q1_L (Shrink QFP, 240-Leads, Body 32x32mm, Pitch 0.5mm, IPC High Density)
footprint 240Q1_M (Shrink QFP, 240-Leads, Body 32x32mm, Pitch 0.5mm, IPC Low Density)
3D model AT40K20LV-240Q1 (240-Pin Shrink Quad Flat Pack 0.5 mm Pitch)
part A pins: 2 I/O1,GCK1(A16) (io), 3 I/O2(A17) (io), 4 I/O3 (io), 5 I/O4 (io), 6 I/O5(A18) (io), 7 I/O6(A19) (io), 8 I/O7 (io), 9 I/O8 (io), 10 I/O9 (io), 11 I/O10 (io), 12 I/O11 (io), 13 I/O12 (io), 15 I/O13,FCK1 (io), 16 I/O14 (io), 17 I/O15(A20) (io), 18 I/O16(A21) (io), 20 I/O17 (io), 21 I/O18 (io), 23 I/O19 (io), 24 I/O20 (io), 25 I/O21 (io), 26 I/O22 (io), 27 I/O23(A22) (io), 28 I/O24(A23) (io), 31 I/O25 (io), 32 I/O26 (io), 33 I/O27 (io), 34 I/O28 (io), 35 I/O29 (io), 36 I/O30 (io), 38 I/O31 (io), 39 I/O32 (io), 41 I/O33 (io), 42 I/O34 (io), 43 I/O35 (io), 44 I/O36,FCK2 (io), 46 I/O37 (io), 47 I/O38 (io), 48 I/O39 (io), 49 I/O40 (io), 50 I/O41 (io), 51 I/O42 (io), 52 I/O43 (io), 53 I/O44 (io), 54 I/O45 (io), 55 I/O46 (io), 56 I/O47(~{OTS}) (io), 57 I/O48,GCK2 (io), 58 M1 (in), 60 M0 (in), 62 M2 (in), 63 I/O49,GCK3 (io), 64 I/O50(HDC) (io), 65 I/O51 (io), 66 I/O52 (io), 67 I/O53 (io), 68 I/O54(LDC) (io), 69 I/O55 (io), 70 I/O56 (io), 71 I/O57 (io), 72 I/O58 (io), 73 I/O59 (io), 74 I/O60 (io), 76 I/O61 (io), 77 I/O62 (io), 78 I/O63 (io), 88 I/O71(D15) (io), 89 I/O72(INIT) (io), 92 I/O73(D14) (io), 93 I/O74(D13) (io), 102 I/O81(D12) (io), 103 I/O82(D11) (io), 113 I/O91(D10) (io), 114 I/O92(D9) (io), 117 I/O95(D8) (io), 118 I/O96,GCK4 (io), 120 ~{CON} (io), 122 ~{RESET} (in), 123 I/O97(D7) (io), 124 I/O98,GCK5 (io), 129 I/O103(D6) (io), 138 I/O111,FCK3 (io), 141 I/O113(D5) (io), 142 I/O114(CS0) (io), 148 I/O119(D4) (io), 152 I/O121(D3) (io), 153 I/O122(~{CHECK}) (io), 159 I/O127(D2) (io), 163 I/O130,FCK4 (io), 173 I/O139(D1) (io), 177 I/O143(D0) (io), 178 I/O144,GCK6(~{CSOUT}) (io), 179 CCLK (in), 183 I/O145(A0) (io), 184 I/O146,GCK7(A1) (io), 187 I/O149(~{CS}1,A2) (io), 188 I/O150(A3) (io), 202 I/O161(A4) (io), 203 I/O162(A5) (io), 209 I/O167(A6) (io), 210 I/O168(A7) (io), 213 I/O169(A8) (io), 214 I/O170(A9) (io), 220 I/O175(A10) (io), 221 I/O176(A11) (io), 232 I/O185(A12) (io), 233 I/O186(A13) (io), 238 I/O191(A14) (io), 239 I/O192,GCK8(A15) (io)
part B pins: 79 I/O64 (io), 81 I/O65 (io), 82 I/O66 (io), 84 I/O67 (io), 85 I/O68 (io), 86 I/O69 (io), 87 I/O70 (io), 94 I/O75 (io), 95 I/O76 (io), 96 I/O77 (io), 97 I/O78 (io), 99 I/O79 (io), 100 I/O80 (io), 104 I/O83 (io), 105 I/O84 (io), 107 I/O85 (io), 108 I/O86 (io), 109 I/O87 (io), 110 I/O88 (io), 111 I/O89 (io), 112 I/O90 (io), 115 I/O93 (io), 116 I/O94 (io), 125 I/O99 (io), 126 I/O100 (io), 127 I/O101 (io), 128 I/O102 (io), 130 I/O104 (io), 131 I/O105 (io), 132 I/O106 (io), 133 I/O107 (io), 134 I/O108 (io), 136 I/O109 (io), 137 I/O110 (io), 139 I/O112 (io), 144 I/O115 (io), 145 I/O116 (io), 146 I/O117 (io), 147 I/O118 (io), 149 I/O120 (io), 154 I/O123 (io), 155 I/O124 (io), 156 I/O125 (io), 157 I/O126 (io), 160 I/O128 (io), 162 I/O129 (io), 164 I/O131 (io), 165 I/O132 (io), 167 I/O133 (io), 168 I/O134 (io), 169 I/O135 (io), 170 I/O136 (io), 171 I/O137 (io), 172 I/O138 (io), 174 I/O140 (io), 175 I/O141 (io), 176 I/O142 (io), 185 I/O147 (io), 186 I/O148 (io), 189 I/O151 (io), 190 I/O152 (io), 191 I/O153 (io), 192 I/O154 (io), 193 I/O155 (io), 194 I/O156 (io), 197 I/O157 (io), 198 I/O158 (io), 199 I/O159 (io), 200 I/O160 (io), 205 I/O163 (io), 206 I/O164 (io), 207 I/O165 (io), 208 I/O166 (io), 215 I/O171 (io), 216 I/O172 (io), 217 I/O173 (io), 218 I/O174 (io), 223 I/O177 (io), 224 I/O178 (io), 225 I/O179 (io), 226 I/O180 (io), 228 I/O181 (io), 229 I/O182 (io), 230 I/O183 (io), 231 I/O184 (io), 234 I/O187 (io), 235 I/O188 (io), 236 I/O189 (io), 237 I/O190 (io)
part C pins: 1 GND (power), 14 GND (power), 19 VCC (power), 22 NC, 29 GND (power), 30 VCC (power), 37 NC, 40 VCC (power), 45 GND (power), 59 GND (power), 61 VCC (power), 75 GND (power), 80 VCC (power), 83 NC, 90 VCC (power), 91 GND (power), 98 NC, 101 VCC (power), 106 GND (power), 119 GND (power), 121 VCC (power), 135 GND (power), 140 VCC (power), 143 NC, 150 VCC (power), 151 GND (power), 158 NC, 161 VCC (power), 166 GND (power), 180 VCC (power), 181 NC, 182 GND (power), 195 NC, 196 GND (power), 201 VCC (power), 204 NC, 211 GND (power), 212 VCC (power), 219 NC, 222 VCC (power), 227 GND (power), 240 VCC (power)

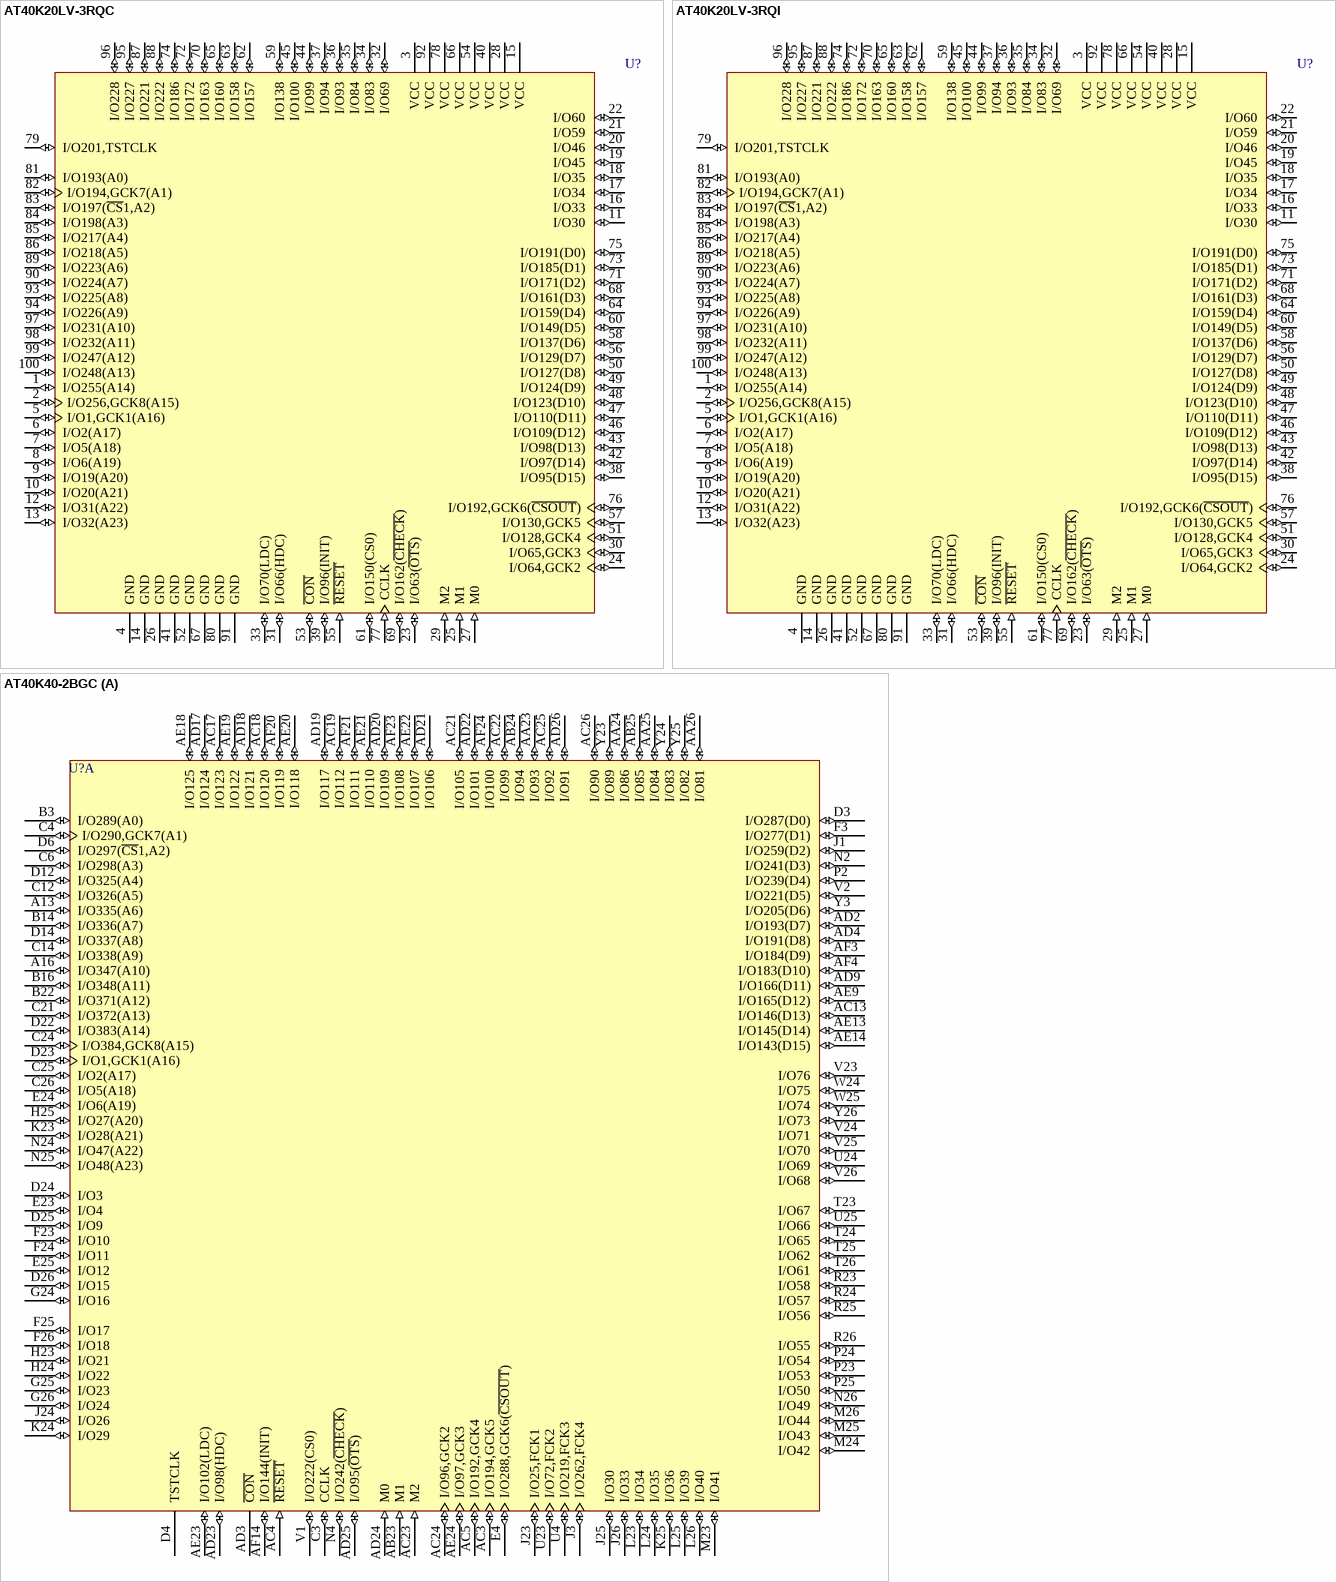
[diagram p66: symbols AT40K20LV-3RQC to AT40K40-2BGC]

## AT40K20LV-3RQC
designator U?
AT40K20LV 3.3V FPGA, 77 User I/Os, 100-Lead PQFP, Speed Grade 3, Commercial Grade; Published: 17-Dec-2003; LatestRevisionDate: 13-Apr-2006; LatestRevisionNote: IPC-7351 Footprint Added.; DatasheetVersion: Rev. 0896C-04/02; PackageVersion: rev.A, Mar-2002; PackageReference: 100Q4; Publisher: Altium Limited; PackageDescription: 100-Pin Quad Flat Pack Rectangular 0.65 mm Pitch; Code_JEDEC: MS-022-GC-1; Code_IPC: QFP65P1720X2320-100; ComponentLink1Description: Manufacturer Link; ComponentLink1URL: http://www.atmel.com/products/FPGA/; ComponentLink2Description: Datasheet; ComponentLink2URL: http://www.atmel.com/dyn/resources/prod_documents/DOC0896.PDF
footprint 100Q4_N (QFP, 100-Leads, Body 20x14mm, Pitch 0.65mm, IPC Medium Density)
footprint 100Q4_L (QFP, 100-Leads, Body 20x14mm, Pitch 0.65mm, IPC High Density)
footprint 100Q4_M (QFP, 100-Leads, Body 20x14mm, Pitch 0.65mm, IPC Low Density)
3D model AT40K20LV-100Q4 (100-Pin Quad Flat Pack Rectangular 0.65 mm Pitch)
pins: 1 I/O255(A14) (io), 2 I/O256,GCK8(A15) (io), 3 VCC (power), 4 GND (power), 5 I/O1,GCK1(A16) (io), 6 I/O2(A17) (io), 7 I/O5(A18) (io), 8 I/O6(A19) (io), 9 I/O19(A20) (io), 10 I/O20(A21) (io), 11 I/O30 (io), 12 I/O31(A22) (io), 13 I/O32(A23) (io), 14 GND (power), 15 VCC (power), 16 I/O33 (io), 17 I/O34 (io), 18 I/O35 (io), 19 I/O45 (io), 20 I/O46 (io), 21 I/O59 (io), 22 I/O60 (io), 23 I/O63(~{OTS}) (io), 24 I/O64,GCK2 (io), 25 M1 (in), 26 GND (power), 27 M0 (in), 28 VCC (power), 29 M2 (in), 30 I/O65,GCK3 (io), 31 I/O66(HDC) (io), 32 I/O69 (io), 33 I/O70(LDC) (io), 34 I/O83 (io), 35 I/O84 (io), 36 I/O93 (io), 37 I/O94 (io), 38 I/O95(D15) (io), 39 I/O96(INIT) (io), 40 VCC (power), 41 GND (power), 42 I/O97(D14) (io), 43 I/O98(D13) (io), 44 I/O99 (io), 45 I/O100 (io), 46 I/O109(D12) (io), 47 I/O110(D11) (io), 48 I/O123(D10) (io), 49 I/O124(D9) (io), 50 I/O127(D8) (io), 51 I/O128,GCK4 (io), 52 GND (power), 53 ~{CON} (io), 54 VCC (power), 55 ~{RESET} (in), 56 I/O129(D7) (io), 57 I/O130,GCK5 (io), 58 I/O137(D6) (io), 59 I/O138 (io), 60 I/O149(D5) (io), 61 I/O150(CS0) (io), 62 I/O157 (io), 63 I/O158 (io), 64 I/O159(D4) (io), 65 I/O160 (io), 66 VCC (power), 67 GND (power), 68 I/O161(D3) (io), 69 I/O162(~{CHECK}) (io), 70 I/O163 (io), 71 I/O171(D2) (io), 72 I/O172 (io), 73 I/O185(D1) (io), 74 I/O186 (io), 75 I/O191(D0) (io), 76 I/O192,GCK6(~{CSOUT}) (io), 77 CCLK (in), 78 VCC (power), 79 I/O201,TSTCLK (io), 80 GND (power), 81 I/O193(A0) (io), 82 I/O194,GCK7(A1) (io), 83 I/O197(~{CS}1,A2) (io), 84 I/O198(A3) (io), 85 I/O217(A4) (io), 86 I/O218(A5) (io), 87 I/O221 (io), 88 I/O222 (io), 89 I/O223(A6) (io), 90 I/O224(A7) (io), 91 GND (power), 92 VCC (power), 93 I/O225(A8) (io), 94 I/O226(A9) (io), 95 I/O227 (io), 96 I/O228 (io), 97 I/O231(A10) (io), 98 I/O232(A11) (io), 99 I/O247(A12) (io), 100 I/O248(A13) (io)

## AT40K20LV-3RQI
designator U?
AT40K20LV 3.3V FPGA, 77 User I/Os, 100-Lead PQFP, Speed Grade 3, Industrial Grade; Published: 17-Dec-2003; LatestRevisionDate: 13-Apr-2006; LatestRevisionNote: IPC-7351 Footprint Added.; DatasheetVersion: Rev. 0896C-04/02; PackageVersion: rev.A, Mar-2002; PackageReference: 100Q4; Publisher: Altium Limited; PackageDescription: 100-Pin Quad Flat Pack Rectangular 0.65 mm Pitch; Code_JEDEC: MS-022-GC-1; Code_IPC: QFP65P1720X2320-100; ComponentLink1Description: Manufacturer Link; ComponentLink1URL: http://www.atmel.com/products/FPGA/; ComponentLink2Description: Datasheet; ComponentLink2URL: http://www.atmel.com/dyn/resources/prod_documents/DOC0896.PDF
footprint 100Q4_N (QFP, 100-Leads, Body 20x14mm, Pitch 0.65mm, IPC Medium Density)
footprint 100Q4_L (QFP, 100-Leads, Body 20x14mm, Pitch 0.65mm, IPC High Density)
footprint 100Q4_M (QFP, 100-Leads, Body 20x14mm, Pitch 0.65mm, IPC Low Density)
3D model AT40K20LV-100Q4 (100-Pin Quad Flat Pack Rectangular 0.65 mm Pitch)
pins: 1 I/O255(A14) (io), 2 I/O256,GCK8(A15) (io), 3 VCC (power), 4 GND (power), 5 I/O1,GCK1(A16) (io), 6 I/O2(A17) (io), 7 I/O5(A18) (io), 8 I/O6(A19) (io), 9 I/O19(A20) (io), 10 I/O20(A21) (io), 11 I/O30 (io), 12 I/O31(A22) (io), 13 I/O32(A23) (io), 14 GND (power), 15 VCC (power), 16 I/O33 (io), 17 I/O34 (io), 18 I/O35 (io), 19 I/O45 (io), 20 I/O46 (io), 21 I/O59 (io), 22 I/O60 (io), 23 I/O63(~{OTS}) (io), 24 I/O64,GCK2 (io), 25 M1 (in), 26 GND (power), 27 M0 (in), 28 VCC (power), 29 M2 (in), 30 I/O65,GCK3 (io), 31 I/O66(HDC) (io), 32 I/O69 (io), 33 I/O70(LDC) (io), 34 I/O83 (io), 35 I/O84 (io), 36 I/O93 (io), 37 I/O94 (io), 38 I/O95(D15) (io), 39 I/O96(INIT) (io), 40 VCC (power), 41 GND (power), 42 I/O97(D14) (io), 43 I/O98(D13) (io), 44 I/O99 (io), 45 I/O100 (io), 46 I/O109(D12) (io), 47 I/O110(D11) (io), 48 I/O123(D10) (io), 49 I/O124(D9) (io), 50 I/O127(D8) (io), 51 I/O128,GCK4 (io), 52 GND (power), 53 ~{CON} (io), 54 VCC (power), 55 ~{RESET} (in), 56 I/O129(D7) (io), 57 I/O130,GCK5 (io), 58 I/O137(D6) (io), 59 I/O138 (io), 60 I/O149(D5) (io), 61 I/O150(CS0) (io), 62 I/O157 (io), 63 I/O158 (io), 64 I/O159(D4) (io), 65 I/O160 (io), 66 VCC (power), 67 GND (power), 68 I/O161(D3) (io), 69 I/O162(~{CHECK}) (io), 70 I/O163 (io), 71 I/O171(D2) (io), 72 I/O172 (io), 73 I/O185(D1) (io), 74 I/O186 (io), 75 I/O191(D0) (io), 76 I/O192,GCK6(~{CSOUT}) (io), 77 CCLK (in), 78 VCC (power), 79 I/O201,TSTCLK (io), 80 GND (power), 81 I/O193(A0) (io), 82 I/O194,GCK7(A1) (io), 83 I/O197(~{CS}1,A2) (io), 84 I/O198(A3) (io), 85 I/O217(A4) (io), 86 I/O218(A5) (io), 87 I/O221 (io), 88 I/O222 (io), 89 I/O223(A6) (io), 90 I/O224(A7) (io), 91 GND (power), 92 VCC (power), 93 I/O225(A8) (io), 94 I/O226(A9) (io), 95 I/O227 (io), 96 I/O228 (io), 97 I/O231(A10) (io), 98 I/O232(A11) (io), 99 I/O247(A12) (io), 100 I/O248(A13) (io)

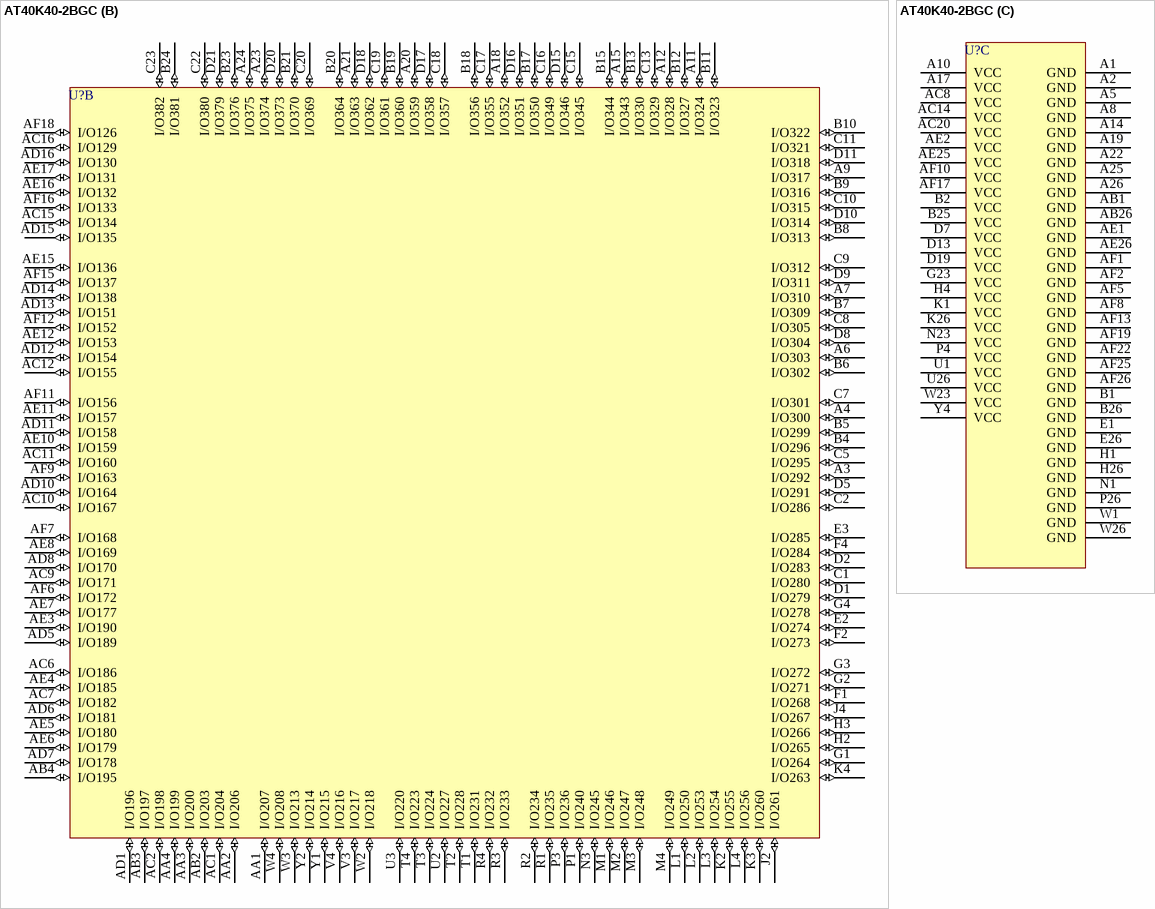
[diagram p67: symbol AT40K40-2BGC]

## AT40K40-2BGC
designator U?
AT40K40 5.0V FPGA, 289 User I/Os, 352-Ball SBGA, Speed Grade 2, Commercial Grade; Published: 17-Dec-2003; LatestRevisionDate: 13-Apr-2006; LatestRevisionNote: IPC-7351 Footprint Added.; DatasheetVersion: Rev. 0896C-04/02; PackageVersion: rev.A, Mar-2002; PackageReference: 352C1; Publisher: Altium Limited; PackageDescription: 352-ball, 35 x 35, Enhanced, Low-profile Square Ball Grid Array Package (SBGA); Code_JEDEC: MO-192-BAR-2; ComponentLink1Description: Manufacturer Link; ComponentLink1URL: http://www.atmel.com/products/FPGA/; ComponentLink2Description: Datasheet; ComponentLink2URL: http://www.atmel.com/dyn/resources/prod_documents/DOC0896.PDF
footprint 352C1 (BGA, 352-Leads, Body 35x35mm, Pitch 1.27mm)
3D model AT40K40-352C1 (352-ball, 35 x 35, Enhanced, Low-profile Square Ball Grid Array Package (SBGA))
part A pins: A13 I/O335(A6) (io), A16 I/O347(A10) (io), AA23 I/O93 (io), AA24 I/O86 (io), AA25 I/O84 (io), AA26 I/O81 (io), AB23 M1 (in), AB24 I/O94 (io), AB25 I/O85 (io), AC3 I/O194,GCK5 (io), AC4 ~{RESET} (in), AC5 I/O192,GCK4 (io), AC13 I/O146(D13) (io), AC17 I/O123 (io), AC18 I/O120 (io), AC19 I/O112 (io), AC21 I/O105 (io), AC22 I/O99 (io), AC23 M2 (in), AC24 I/O96,GCK2 (io), AC25 I/O92 (io), AC26 I/O90 (io), AD2 I/O193(D7) (io), AD3 ~{CON} (oc), AD4 I/O191(D8) (io), AD9 I/O166(D11) (io), AD17 I/O124 (io), AD18 I/O121 (io), AD19 I/O117 (io), AD20 I/O109 (io), AD21 I/O106 (io), AD22 I/O101 (io), AD23 I/O98(HDC) (io), AD24 M0 (in), AD25 I/O95(~{OTS}) (io), AD26 I/O91 (io), AE9 I/O165(D12) (io), AE13 I/O145(D14) (io), AE14 I/O143(D15) (io), AE18 I/O125 (io), AE19 I/O122 (io), AE20 I/O118 (io), AE21 I/O110 (io), AE22 I/O107 (io), AE23 I/O102(LDC) (io), AE24 I/O97,GCK3 (io), AF3 I/O184(D9) (io), AF4 I/O183(D10) (io), AF14 I/O144(INIT) (io), AF20 I/O119 (io), AF21 I/O111 (io), AF23 I/O108 (io), AF24 I/O100 (io), B3 I/O289(A0) (io), B14 I/O336(A7) (io), B16 I/O348(A11) (io), B22 I/O371(A12) (io), C3 CCLK (io), C4 I/O290,GCK7(A1) (io), C6 I/O298(A3) (io), C12 I/O326(A5) (io), C14 I/O338(A9) (io), C21 I/O372(A13) (io), C24 I/O384,GCK8(A15) (io), C25 I/O2(A17) (io), C26 I/O5(A18) (io), D3 I/O287(D0) (io), D4 TSTCLK, D6 I/O297(~{CS}1,A2) (io), D12 I/O325(A4) (io), D14 I/O337(A8) (io), D22 I/O383(A14) (io), D23 I/O1,GCK1(A16) (io), D24 I/O3 (io), D25 I/O9 (io), D26 I/O15 (io), E4 I/O288,GCK6(~{CSOUT}) (io), E23 I/O4 (io), E24 I/O6(A19) (io), E25 I/O12 (io), F3 I/O277(D1) (io), F23 I/O10 (io), F24 I/O11 (io), F25 I/O17 (io), F26 I/O18 (io), G24 I/O16 (io), G25 I/O23 (io), G26 I/O24 (io), H23 I/O21 (io), H24 I/O22 (io), H25 I/O27(A20) (io), J1 I/O259(D2) (io), J3 I/O262,FCK4 (io), J23 I/O25,FCK1 (io), J24 I/O26 (io), J25 I/O30 (io), J26 I/O33 (io), K23 I/O28(A21) (io), K24 I/O29 (io), K25 I/O36 (io), L23 I/O34 (io), L24 I/O35 (io), L25 I/O39 (io), L26 I/O40 (io), M23 I/O41 (io), M24 I/O42 (io), M25 I/O43 (io), M26 I/O44 (io), N2 I/O241(D3) (io), N4 I/O242(~{CHECK}) (io), N24 I/O47(A22) (io), N25 I/O48(A23) (io), N26 I/O49 (io), P2 I/O239(D4) (io), P23 I/O53 (io), P24 I/O54 (io), P25 I/O50 (io), R23 I/O58 (io), R24 I/O57 (io), R25 I/O56 (io), R26 I/O55 (io), T23 I/O67 (io), T24 I/O65 (io), T25 I/O62 (io), T26 I/O61 (io), U4 I/O219,FCK3 (io), U23 I/O72,FCK2 (io), U24 I/O69 (io), U25 I/O66 (io), V1 I/O222(CS0) (io), V2 I/O221(D5) (io), V23 I/O76 (io), V24 I/O71 (io), V25 I/O70 (io), V26 I/O68 (io), W24 I/O75 (io), W25 I/O74 (io), Y3 I/O205(D6) (io), Y23 I/O89 (io), Y24 I/O83 (io), Y25 I/O82 (io), Y26 I/O73 (io)
part B pins: A3 I/O292 (io), A4 I/O300 (io), A6 I/O303 (io), A7 I/O310 (io), A9 I/O317 (io), A11 I/O324 (io), A12 I/O328 (io), A15 I/O343 (io), A18 I/O352 (io), A20 I/O359 (io), A21 I/O363 (io), A23 I/O374 (io), A24 I/O375 (io), AA1 I/O207 (io), AA2 I/O206 (io), AA3 I/O200 (io), AA4 I/O199 (io), AB2 I/O203 (io), AB3 I/O197 (io), AB4 I/O195 (io), AC1 I/O204 (io), AC2 I/O198 (io), AC6 I/O186 (io), AC7 I/O182 (io), AC9 I/O171 (io), AC10 I/O167 (io), AC11 I/O160 (io), AC12 I/O155 (io), AC15 I/O134 (io), AC16 I/O129 (io), AD1 I/O196 (io), AD5 I/O189 (io), AD6 I/O181 (io), AD7 I/O178 (io), AD8 I/O170 (io), AD10 I/O164 (io), AD11 I/O158 (io), AD12 I/O154 (io), AD13 I/O151 (io), AD14 I/O138 (io), AD15 I/O135 (io), AD16 I/O130 (io), AE3 I/O190 (io), AE4 I/O185 (io), AE5 I/O180 (io), AE6 I/O179 (io), AE7 I/O177 (io), AE8 I/O169 (io), AE10 I/O159 (io), AE11 I/O157 (io), AE12 I/O153 (io), AE15 I/O136 (io), AE16 I/O132 (io), AE17 I/O131 (io), AF6 I/O172 (io), AF7 I/O168 (io), AF9 I/O163 (io), AF11 I/O156 (io), AF12 I/O152 (io), AF15 I/O137 (io), AF16 I/O133 (io), AF18 I/O126 (io), B4 I/O296 (io), B5 I/O299 (io), B6 I/O302 (io), B7 I/O309 (io), B8 I/O313 (io), B9 I/O316 (io), B10 I/O322 (io), B11 I/O323 (io), B12 I/O327 (io), B13 I/O330 (io), B15 I/O344 (io), B17 I/O350 (io), B18 I/O356 (io), B19 I/O360 (io), B20 I/O364 (io), B21 I/O370 (io), B23 I/O376 (io), B24 I/O381 (io), C1 I/O280 (io), C2 I/O286 (io), C5 I/O295 (io), C7 I/O301 (io), C8 I/O305 (io), C9 I/O312 (io), C10 I/O315 (io), C11 I/O321 (io), C13 I/O329 (io), C15 I/O345 (io), C16 I/O349 (io), C17 I/O355 (io), C18 I/O357 (io), C19 I/O361 (io), C20 I/O369 (io), C22 I/O380 (io), C23 I/O382 (io), D1 I/O279 (io), D2 I/O283 (io), D5 I/O291 (io), D8 I/O304 (io), D9 I/O311 (io), D10 I/O314 (io), D11 I/O318 (io), D15 I/O346 (io), D16 I/O351 (io), D17 I/O358 (io), D18 I/O362 (io), D20 I/O373 (io), D21 I/O379 (io), E2 I/O274 (io), E3 I/O285 (io), F1 I/O268 (io), F2 I/O273 (io), F4 I/O284 (io), G1 I/O264 (io), G2 I/O271 (io), G3 I/O272 (io), G4 I/O278 (io), H2 I/O265 (io), H3 I/O266 (io), J2 I/O261 (io), J4 I/O267 (io), K2 I/O255 (io), K3 I/O260 (io), K4 I/O263 (io), L1 I/O250 (io), L2 I/O253 (io), L3 I/O254 (io), L4 I/O256 (io), M1 I/O246 (io), M2 I/O247 (io), M3 I/O248 (io), M4 I/O249 (io), N3 I/O245 (io), P1 I/O240 (io), P3 I/O236 (io), R1 I/O235 (io), R2 I/O234 (io), R3 I/O233 (io), R4 I/O232 (io), T1 I/O231 (io), T2 I/O228 (io), T3 I/O224 (io), T4 I/O223 (io), U2 I/O227 (io), U3 I/O220 (io), V3 I/O217 (io), V4 I/O216 (io), W2 I/O218 (io), W3 I/O213 (io), W4 I/O208 (io), Y1 I/O215 (io), Y2 I/O214 (io)
part C pins: A1 GND (power), A2 GND (power), A5 GND (power), A8 GND (power), A10 VCC (power), A14 GND (power), A17 VCC (power), A19 GND (power), A22 GND (power), A25 GND (power), A26 GND (power), AB1 GND (power), AB26 GND (power), AC8 VCC (power), AC14 VCC (power), AC20 VCC (power), AE1 GND (power), AE2 VCC (power), AE25 VCC (power), AE26 GND (power), AF1 GND (power), AF2 GND (power), AF5 GND (power), AF8 GND (power), AF10 VCC (power), AF13 GND (power), AF17 VCC (power), AF19 GND (power), AF22 GND (power), AF25 GND (power), AF26 GND (power), B1 GND (power), B2 VCC (power), B25 VCC (power), B26 GND (power), D7 VCC (power), D13 VCC (power), D19 VCC (power), E1 GND (power), E26 GND (power), G23 VCC (power), H1 GND (power), H4 VCC (power), H26 GND (power), K1 VCC (power), K26 VCC (power), N1 GND (power), N23 VCC (power), P4 VCC (power), P26 GND (power), U1 VCC (power), U26 VCC (power), W1 GND (power), W23 VCC (power), W26 GND (power), Y4 VCC (power)

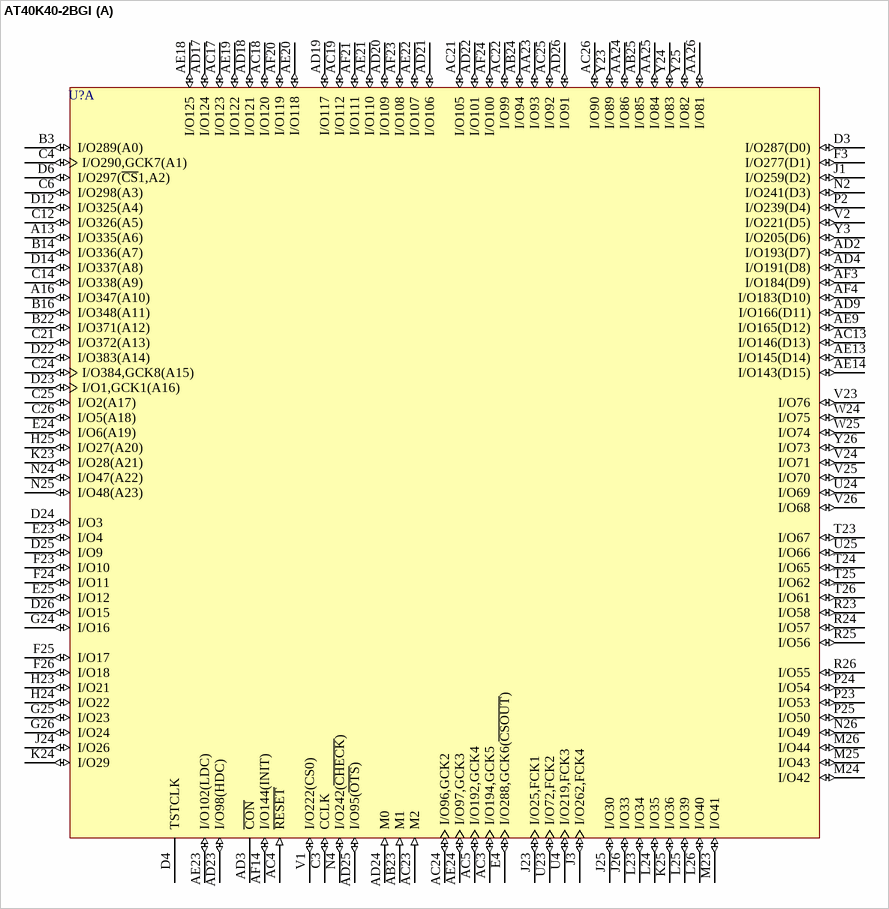
[diagram p68: symbol AT40K40-2BGI]

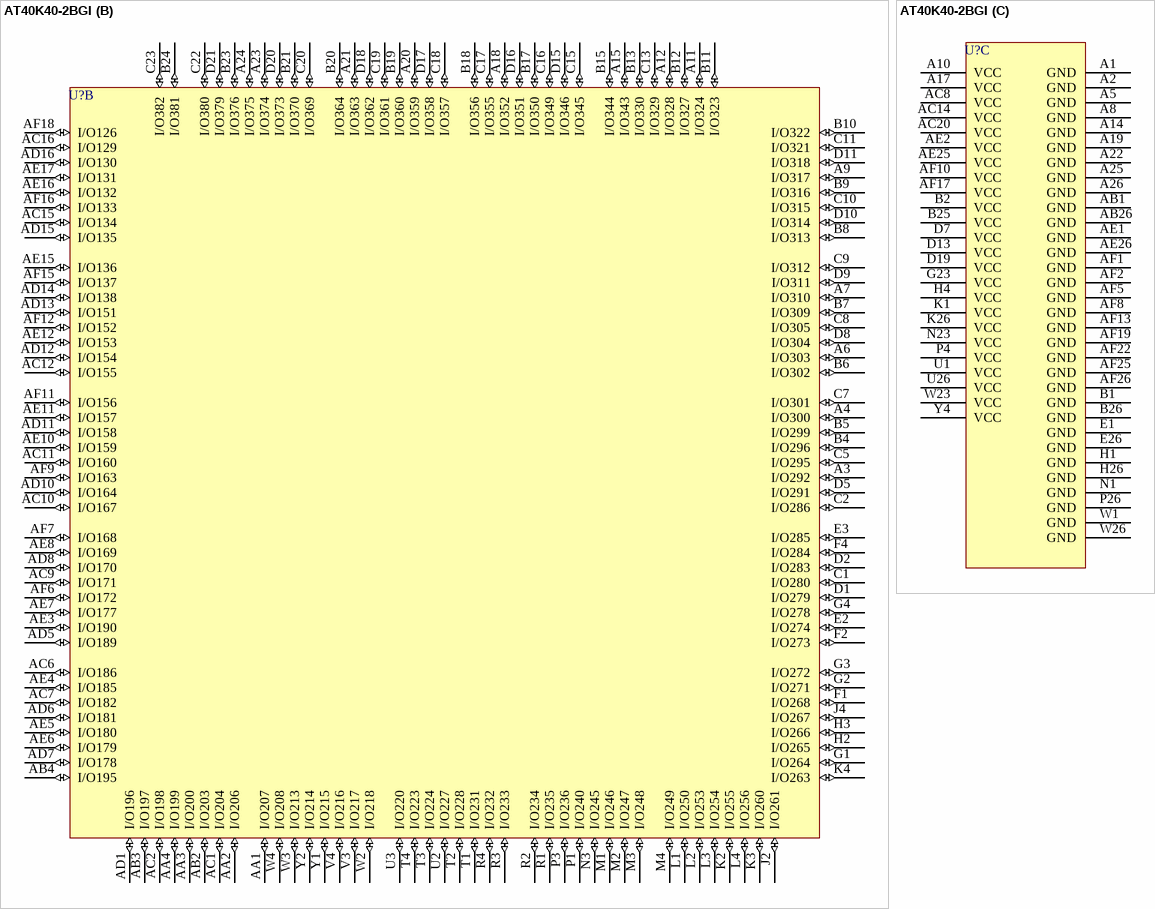
[diagram p69: symbol AT40K40-2BGI]